# Altium schematic symbol library SR SCH Library V02.SchLib: 689 symbols (part 2 of 3)
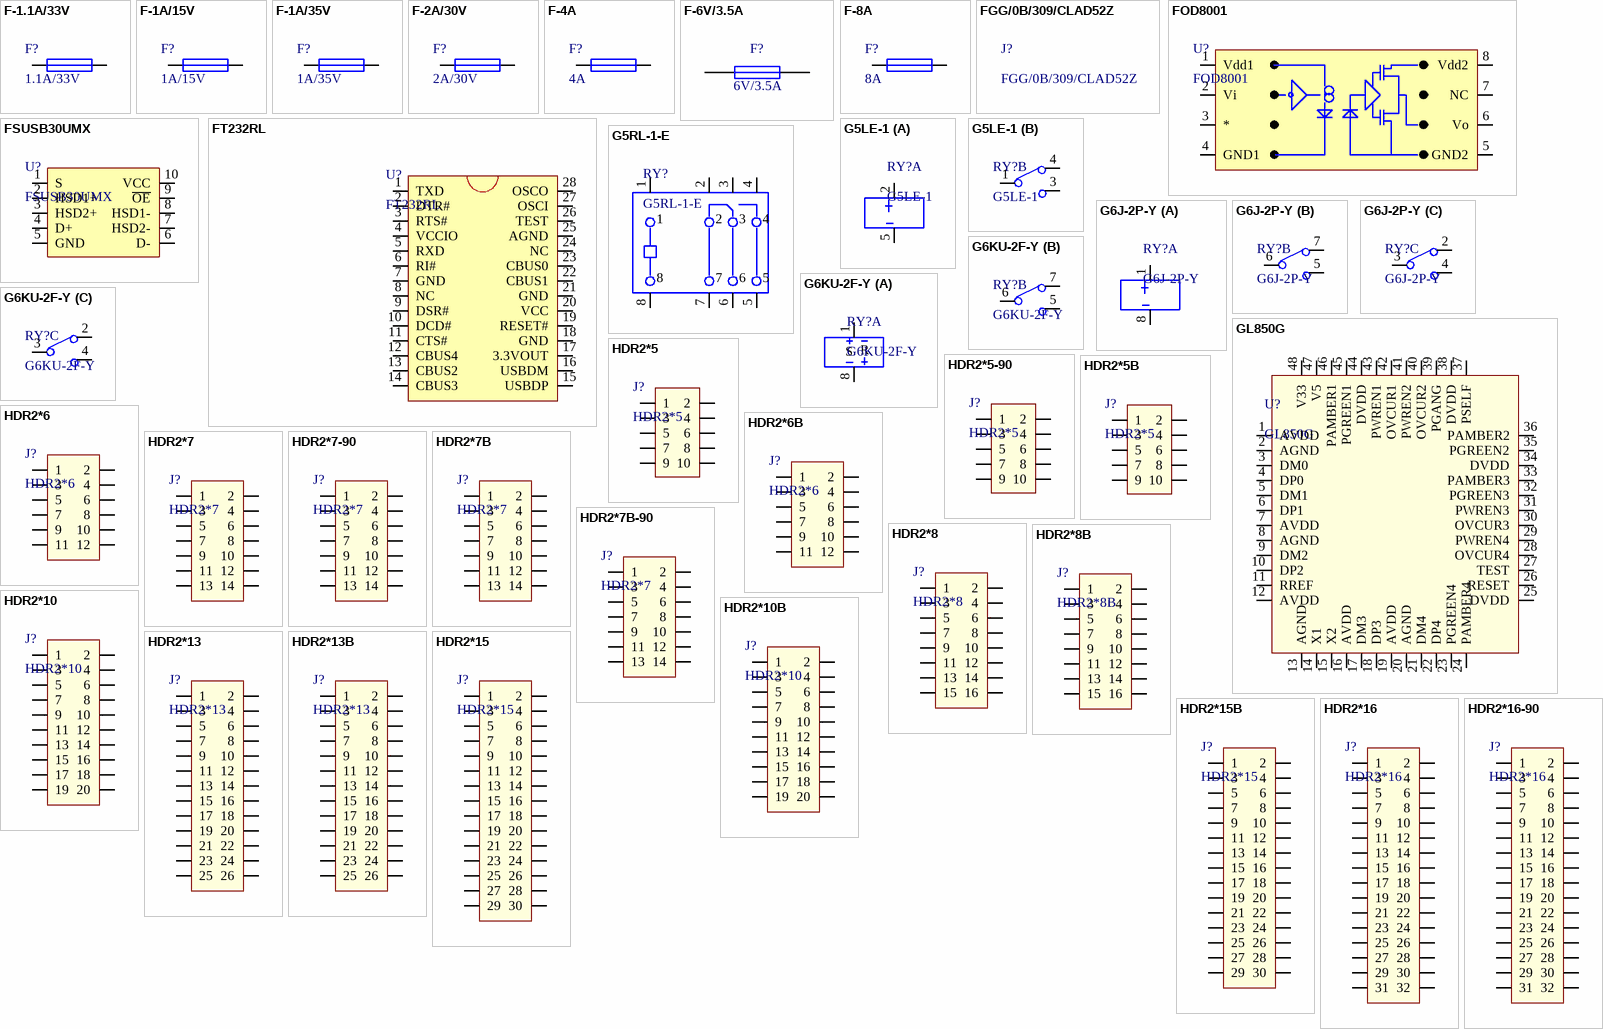
[diagram p19: symbols F-1.1A/33V to HDR2*16-90]

## HDR2*5-90
designator J?, comment HDR2*5
牛角连接器,简牛插座,90度弯角，2*5,2.54mm; 料号: 10704-00038-00; 品名: 牛角连接器
footprint HDR2×5H
pins: 1, 2, 3, 4, 5, 6, 7, 8, 9, 10

## HDR2*5B
designator J?, comment HDR2*5
牛角连接器,牛角插座,2*5,2.54mm; 料号: 10704-00002-00; 品名: 牛角连接器
footprint HDR2×5
pins: 1, 2, 3, 4, 5, 6, 7, 8, 9, 10

## HDR2*6
designator J?
牛角连接器,简牛插座,2*6,2.54mm; 料号: 10704-00004-00; 品名: 牛角连接器
footprint HDR2×6
pins: 1, 2, 3, 4, 5, 6, 7, 8, 9, 10, 11, 12

## HDR2*6B
designator J?, comment HDR2*6
牛角连接器,牛角插座,2*6,2.54mm; 料号: 10704-00005-00; 品名: 牛角连接器
footprint HDR2×6
pins: 1, 2, 3, 4, 5, 6, 7, 8, 9, 10, 11, 12

## HDR2*7
designator J?
牛角连接器,简牛插座,2*7,2.54mm; 料号: 10704-00007-00; 品名: 牛角连接器
footprint HDR2×7
pins: 1, 2, 3, 4, 5, 6, 7, 8, 9, 10, 11, 12, 13, 14

## HDR2*7-90
designator J?, comment HDR2*7
牛角连接器,简牛插座,90度弯角，2*7,2.54mm; 料号: 10704-00039-00; 品名: 牛角连接器
footprint HDR2×7H
pins: 1, 2, 3, 4, 5, 6, 7, 8, 9, 10, 11, 12, 13, 14

## HDR2*7B
designator J?, comment HDR2*7
牛角连接器,牛角插座,2*7,2.54mm; 料号: 10704-00008-00; 品名: 牛角连接器
footprint HDR2×7
pins: 1, 2, 3, 4, 5, 6, 7, 8, 9, 10, 11, 12, 13, 14

## HDR2*7B-90
designator J?, comment HDR2*7
牛角连接器,牛角插座,90度弯脚，2*7,2.54mm; 料号: 10704-00041-00; 品名: 牛角连接器
footprint HDR2×7H
pins: 1, 2, 3, 4, 5, 6, 7, 8, 9, 10, 11, 12, 13, 14

## HDR2*8
designator J?
牛角连接器,简牛插座,2*8,2.54mm; 料号: 10704-00010-00; 品名: 牛角连接器
footprint HDR2×8
pins: 1, 2, 3, 4, 5, 6, 7, 8, 9, 10, 11, 12, 13, 14, 15, 16

## HDR2*8B
designator J?
牛角连接器,牛角插座,2*8,2.54mm; 料号: 10704-00011-00; 品名: 牛角连接器
footprint HDR2×8
pins: 1, 2, 3, 4, 5, 6, 7, 8, 9, 10, 11, 12, 13, 14, 15, 16

## HDR2*10
designator J?
牛角连接器,简牛插座,2*10,2.54mm; 料号: 10704-00013-00; 品名: 牛角连接器
footprint HDR2×10
pins: 1, 2, 3, 4, 5, 6, 7, 8, 9, 10, 11, 12, 13, 14, 15, 16, 17, 18, 19, 20

## HDR2*10B
designator J?, comment HDR2*10
牛角连接器,牛角插座,2*10,2.54mm; 料号: 10704-00015-00; 品名: 牛角连接器
footprint HDR2×10
pins: 1, 2, 3, 4, 5, 6, 7, 8, 9, 10, 11, 12, 13, 14, 15, 16, 17, 18, 19, 20

## HDR2*13
designator J?
牛角连接器,简牛插座,2*13,2.54mm; 料号: 10704-00017-00; 品名: 牛角连接器
footprint HDR2×13
pins: 1, 2, 3, 4, 5, 6, 7, 8, 9, 10, 11, 12, 13, 14, 15, 16, 17, 18, 19, 20, 21, 22, 23, 24, 25, 26

## HDR2*13B
designator J?, comment HDR2*13
牛角连接器,牛角插座,2*13,2.54mm; 料号: 10704-00018-00; 品名: 牛角连接器
footprint HDR2×13
pins: 1, 2, 3, 4, 5, 6, 7, 8, 9, 10, 11, 12, 13, 14, 15, 16, 17, 18, 19, 20, 21, 22, 23, 24, 25, 26

## HDR2*15
designator J?
牛角连接器,简牛插座,2*15,2.54mm; 料号: 10704-00020-00; 品名: 牛角连接器
footprint HDR2×15
pins: 1, 2, 3, 4, 5, 6, 7, 8, 9, 10, 11, 12, 13, 14, 15, 16, 17, 18, 19, 20, 21, 22, 23, 24, 25, 26, 27, 28, 29, 30

## HDR2*15B
designator J?, comment HDR2*15
牛角连接器,牛角插座,2*15,2.54mm; 料号: 10704-00021-00; 品名: 牛角连接器
footprint HDR2×15
pins: 1, 2, 3, 4, 5, 6, 7, 8, 9, 10, 11, 12, 13, 14, 15, 16, 17, 18, 19, 20, 21, 22, 23, 24, 25, 26, 27, 28, 29, 30

## HDR2*16
designator J?
牛角连接器,简牛插座,2*16,2.54mm; 料号: 10704-00023-00; 品名: 牛角连接器
footprint HDR2×16
pins: 1, 2, 3, 4, 5, 6, 7, 8, 9, 10, 11, 12, 13, 14, 15, 16, 17, 18, 19, 20, 21, 22, 23, 24, 25, 26, 27, 28, 29, 30, 31, 32

## HDR2*16-90
designator J?, comment HDR2*16
牛角连接器,简牛插座,90度弯角，2*16,2.54mm; 料号: 10704-00040-00; 品名: 牛角连接器
footprint HDR2×16H
pins: 1, 2, 3, 4, 5, 6, 7, 8, 9, 10, 11, 12, 13, 14, 15, 16, 17, 18, 19, 20, 21, 22, 23, 24, 25, 26, 27, 28, 29, 30, 31, 32

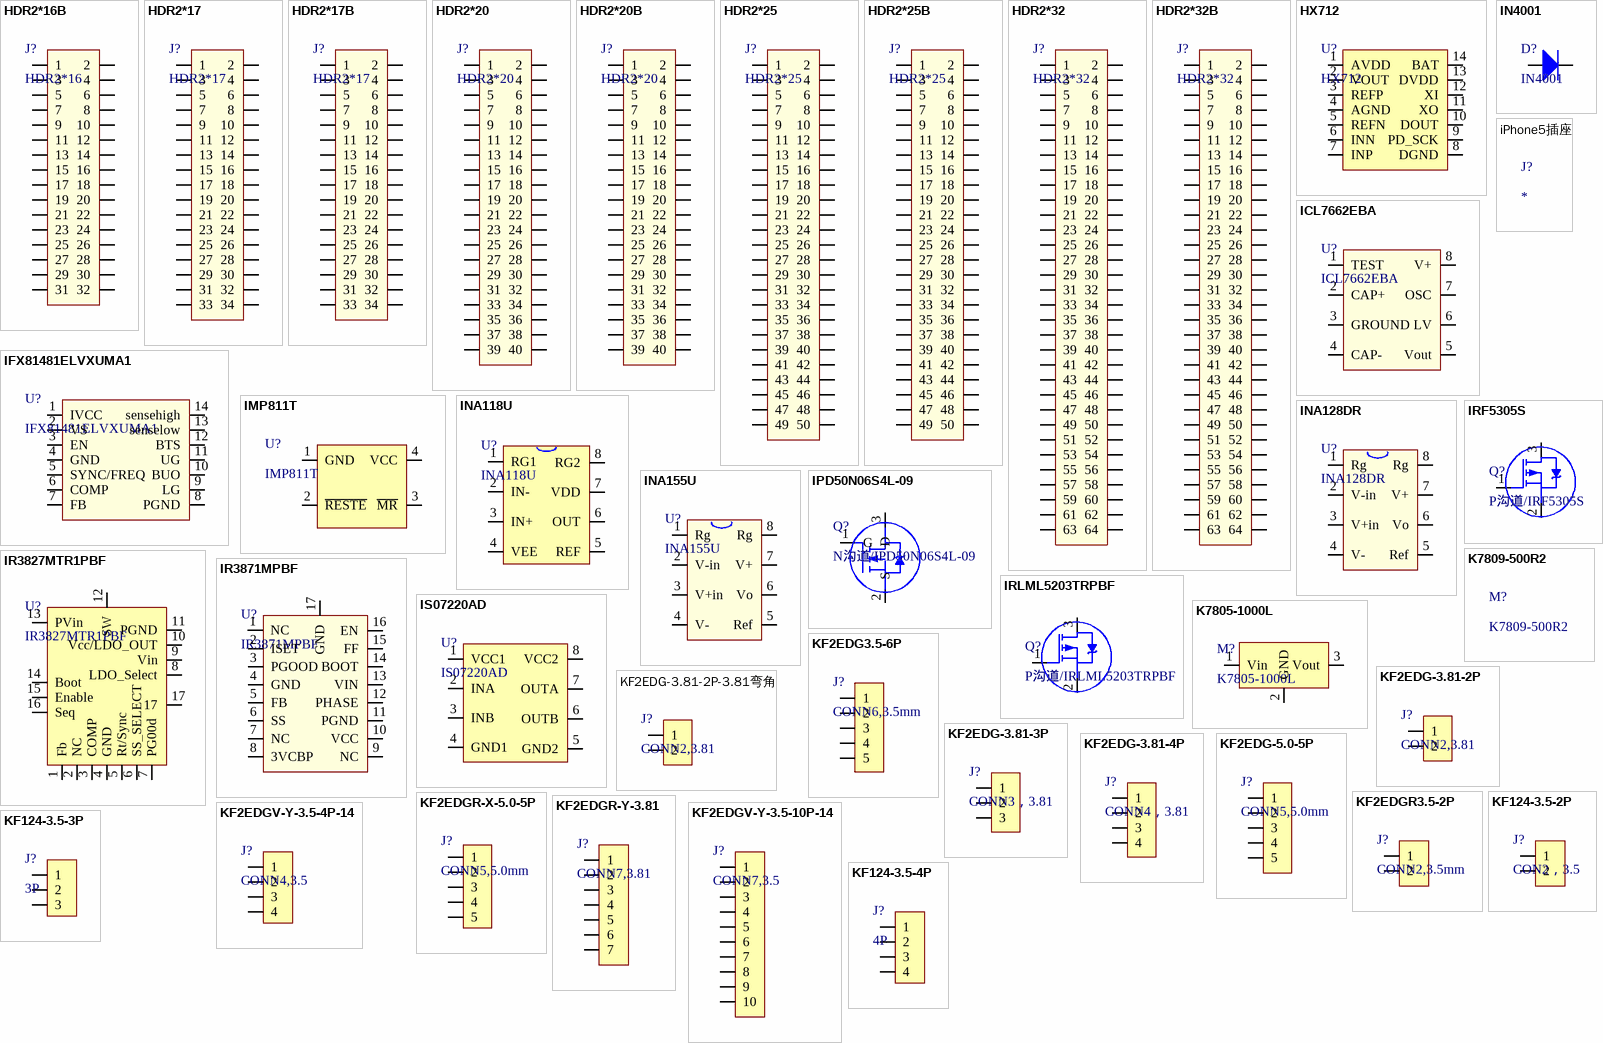
[diagram p8: symbols HDR2*16B to KF124-3.5-4P]

## HDR2*16B
designator J?, comment HDR2*16
牛角连接器,牛角插座,2*16,2.54mm; 料号: 10704-00024-00; 品名: 牛角连接器
footprint HDR2×16
pins: 1, 2, 3, 4, 5, 6, 7, 8, 9, 10, 11, 12, 13, 14, 15, 16, 17, 18, 19, 20, 21, 22, 23, 24, 25, 26, 27, 28, 29, 30, 31, 32

## HDR2*17
designator J?
牛角连接器,简牛插座,2*17,2.54mm; 料号: 10704-00026-00; 品名: 牛角连接器
footprint HDR2×17
pins: 1, 2, 3, 4, 5, 6, 7, 8, 9, 10, 11, 12, 13, 14, 15, 16, 17, 18, 19, 20, 21, 22, 23, 24, 25, 26, 27, 28, 29, 30, 31, 32, 33, 34

## HDR2*17B
designator J?, comment HDR2*17
牛角连接器,牛角插座,2*17,2.54mm; 料号: 10704-00027-00; 品名: 牛角连接器
footprint HDR2×17
pins: 1, 2, 3, 4, 5, 6, 7, 8, 9, 10, 11, 12, 13, 14, 15, 16, 17, 18, 19, 20, 21, 22, 23, 24, 25, 26, 27, 28, 29, 30, 31, 32, 33, 34

## HDR2*20
designator J?
牛角连接器,简牛插座,2*20,2.54mm; 料号: 10704-00029-00; 品名: 牛角连接器
footprint HDR2×20
pins: 1, 2, 3, 4, 5, 6, 7, 8, 9, 10, 11, 12, 13, 14, 15, 16, 17, 18, 19, 20, 21, 22, 23, 24, 25, 26, 27, 28, 29, 30, 31, 32, 33, 34, 35, 36, 37, 38, 39, 40

## HDR2*20B
designator J?, comment HDR2*20
牛角连接器,牛角插座,2*20,2.54mm; 料号: 10704-00030-00; 品名: 牛角连接器
footprint HDR2×20
pins: 1, 2, 3, 4, 5, 6, 7, 8, 9, 10, 11, 12, 13, 14, 15, 16, 17, 18, 19, 20, 21, 22, 23, 24, 25, 26, 27, 28, 29, 30, 31, 32, 33, 34, 35, 36, 37, 38, 39, 40

## HDR2*25
designator J?
牛角连接器,简牛插座,2*25,2.54mm; 料号: 10704-00032-00; 品名: 牛角连接器
footprint HDR2×25
pins: 1, 2, 3, 4, 5, 6, 7, 8, 9, 10, 11, 12, 13, 14, 15, 16, 17, 18, 19, 20, 21, 22, 23, 24, 25, 26, 27, 28, 29, 30, 31, 32, 33, 34, 35, 36, 37, 38, 39, 40, 41, 42, 43, 44, 45, 46, 47, 48, 49, 50

## HDR2*25B
designator J?, comment HDR2*25
牛角连接器,牛角插座,2*25,2.54mm; 料号: 10704-00033-00; 品名: 牛角连接器
footprint HDR2×25
pins: 1, 2, 3, 4, 5, 6, 7, 8, 9, 10, 11, 12, 13, 14, 15, 16, 17, 18, 19, 20, 21, 22, 23, 24, 25, 26, 27, 28, 29, 30, 31, 32, 33, 34, 35, 36, 37, 38, 39, 40, 41, 42, 43, 44, 45, 46, 47, 48, 49, 50

## HDR2*32
designator J?
牛角连接器,简牛插座,2*32,2.54mm; 料号: 10704-00035-00; 品名: 牛角连接器
footprint HDR2×32
pins: 1, 2, 3, 4, 5, 6, 7, 8, 9, 10, 11, 12, 13, 14, 15, 16, 17, 18, 19, 20, 21, 22, 23, 24, 25, 26, 27, 28, 29, 30, 31, 32, 33, 34, 35, 36, 37, 38, 39, 40, 41, 42, 43, 44, 45, 46, 47, 48, 49, 50, 51, 52, 53, 54, 55, 56, 57, 58, 59, 60, 61, 62, 63, 64

## HDR2*32B
designator J?, comment HDR2*32
牛角连接器,牛角插座,2*32,2.54mm; 料号: 10704-00036-00; 品名: 牛角连接器
footprint HDR2×32
pins: 1, 2, 3, 4, 5, 6, 7, 8, 9, 10, 11, 12, 13, 14, 15, 16, 17, 18, 19, 20, 21, 22, 23, 24, 25, 26, 27, 28, 29, 30, 31, 32, 33, 34, 35, 36, 37, 38, 39, 40, 41, 42, 43, 44, 45, 46, 47, 48, 49, 50, 51, 52, 53, 54, 55, 56, 57, 58, 59, 60, 61, 62, 63, 64

## HX712
designator U?
IC，HX712,16PIN模块，SOP14; 料号: 10602-00013-6H; 品名: 放大器
footprint SOP14
pins: 1 AVDD, 2 VOUT, 3 REFP, 4 AGND, 5 REFN, 6 INN, 7 INP, 8 DGND, 9 PD_SCK, 10 DOUT, 11 XO, 12 XI, 13 DVDD, 14 BAT

## ICL7662EBA
designator U?
IC，ICL7662EBA，SOP8; 料号: 10604-00029-4H; 品名: 电源芯片
footprint SOP8 (body:6mm)
pins: 1 TEST, 2 CAP+, 3 GROUND, 4 CAP-, 5 Vout, 6 LV, 7 OSC, 8 V+

## IFX81481ELVXUMA1
designator U?
IFX81481ELVXUMA1,SSOP14; 料号: 10604-00041-00; 品名: 电源芯片
footprint SSOP14
pins: 1 IVCC, 2 VS, 3 EN, 4 GND, 5 SYNC/FREQ, 6 COMP, 7 FB, 8 PGND, 9 LG, 10 BUO, 11 UG, 12 BTS, 13 senselow, 14 sensehigh

## IMP811T
designator U?
IC，IMP811T,SOT143; 料号: 10611-00012-00; 品名: ASIC
footprint SOT-143
pins: 1 GND, 2 ~{R}~{E}~{S}~{T}~{E}, 3 ~{M}~{R}, 4 VCC

## IN4001
designator D?
整流二极管，1N4001，DO-214AC; 料号: 10401-00001-4K; 品名: 整流二极管
footprint DO-214AC(SMA) (SMA)
pins: A, K

## INA118U
designator U?
IC,INA118U,SOP8; 料号: 10602-00014-00; 品名: 放大器
footprint SOP8 (body:6mm)
pins: 1 RG1, 2 IN-, 3 IN+, 4 VEE, 5 REF, 6 OUT, 7 VDD, 8 RG2

## INA128DR
designator U?
IC，INA128DR，SOP8; 料号: 10602-00003-9G; 品名: 放大器
footprint SOP8 (body:6mm)
pins: 1 Rg, 2 V-in, 3 V+in, 4 V-, 5 Ref, 6 Vo, 7 V+, 8 Rg

## INA155U
designator U?
IC，INA155U，SOP8; 料号: 10602-00008-9G; 品名: 放大器
footprint SOP8 (body:6mm)
pins: 1 Rg, 2 V-in, 3 V+in, 4 V-, 5 Ref, 6 Vo, 7 V+, 8 Rg

## IPD50N06S4L-09
designator Q?, comment N沟道/IPD50N06S4L-09
N沟道场效应管，IPD50N06S4L-09，TO-252; 料号: 10503-00005-00; 品名: N沟道场效应管
footprint TO-252 DPAK
pins: 1 G, 2 S, 3 D

## iPhone5插座
designator J?
iPhone5插座，母头，10*0.6mm; 料号: 10705-00017-00; 品名: 数据接口连接器

## IR3827MTR1PBF
designator U?
IC，IR3827MTR1PBF，QFN17（4*5）; 料号: 10604-00022-7G; 品名: 电源芯片
footprint QFN17
pins: 1 Fb, 2 NC, 3 COMP, 4 GND, 5 Rt/Sync, 6 SS_SELECT, 7 PG00d, 8 LDO_Select, 9 Vin, 10 Vcc/LDO_OUT, 11 PGND, 12 SW, 13 PVin, 14 Boot, 15 Enable, 16 Seq, 17

## IR3871MPBF
designator U?
IR3871MPBF，IR3871; 料号: 10604-00038-00; 品名: 电源芯片
pins: 1 NC, 2 ISET, 3 PGOOD, 4 GND, 5 FB, 6 SS, 7 NC, 8 3VCBP, 9 NC, 10 VCC, 11 PGND, 12 PHASE, 13 VIN, 14 BOOT, 15 FF, 16 EN, 17 GND

## IRF5305S
designator Q?, comment P沟道/IRF5305S
P沟道场效应管，IRF5305S，TO-263-3; 料号: 10504-00001-7G; 品名: P沟道场效应管
footprint TO-263-3
pins: 1 G, 2 S, 3 D

## IRLML5203TRPBF
designator Q?, comment P沟道/IRLML5203TRPBF
P沟道场效应管，IRLML5203TRPBF，SOT-23; 料号: 10504-00003-7G; 品名: P沟道场效应管
footprint SOT-23
pins: 1 G, 2 S, 3 D

## IS07220AD
designator U?
光耦，IS07220AD，SOP8; 料号: 10609-00008-9G; 品名: 光耦
footprint SOP8 (body:6mm)
pins: 1 VCC1, 2 INA, 3 INB, 4 GND1, 5 GND2, 6 OUTB, 7 OUTA, 8 VCC2

## K7805-1000L
designator M?
DC-DC模块，MORNSUN K7805-1000L，  IN:6.5-32VDC,OUT:5VDC/1000MA; 料号: 11101-00002-2L; 品名: DC-DC模块
footprint K7805-1000L (电源模块)
pins: 1 Vin, 2 GND, 3 Vout

## K7809-500R2
designator M?
DC-DC模块,MORNSUN,K7809-500R2，IN:11-32VDC,OUT:9VDC/500MA; 料号: 11101-00008-2L; 品名: DC-DC模块

## KF2EDG3.5-6P
designator J?, comment CONN6,3.5mm
KF2EDG3.5-6P，插座; 料号: 10701-00093-00; 品名: 线对板连接器
footprint KF2EDGR-Y-6P (3.5mm插拨式接线端子，配合KF2EDG-Y使用)
pins: 1, 2, 3, 4, 5

## KF2EDG-3.81-2P
designator J?, comment CONN2,3.81
KF2EDG-3.81-2P,3.81mm; 料号: 10701-00099-00; 品名: 线对板连接器
pins: 1, 2

## KF2EDG-3.81-2P-3.81弯角
designator J?, comment CONN2,3.81
KF2EDG-3.81-2P,3.81mm 弯角; 料号: 10701-00097-00; 品名: 线对板连接器
pins: 1, 2

## KF2EDG-3.81-3P
designator J?, comment CONN3，3.81
KF2EDG-3.81-3P,3.81mm; 料号: 10701-00100-00; 品名: 线对板连接器
pins: 1, 2, 3

## KF2EDG-3.81-4P
designator J?, comment CONN4，3.81
KF2EDG-3.81-4P,3.81mm; 料号: 10701-00101-00; 品名: 线对板连接器
pins: 1, 2, 3, 4

## KF2EDG-5.0-5P
designator J?, comment CONN5,5.0mm
母头，KF2EDG-5.0-5P，5.0mm; 料号: 10701-00080-00; 品名: 线对板连接器
footprint KF2EDGR-5.0-5P (Footprint not found)
footprint KF2EDGR-Y-5P-5.0 (3.5mm插拨式接线端子，配合KF2EDG-Y使用)
pins: 1, 2, 3, 4, 5

## KF2EDGR3.5-2P
designator J?, comment CONN2,3.5mm
KF2EDGR3.5-2P，插座; 料号: 10701-00091-00; 品名: 线对板连接器
footprint KF2EDGR-Y-2P (3.5mm插拨式接线端子，配合KF2EDG-Y使用)
pins: 1, 2

## KF2EDGR-X-5.0-5P
designator J?, comment CONN5,5.0mm
公头，KF2EDGR-X-5.0-5P，5.0mm; 料号: 10701-00079-00; 品名: 线对板连接器
footprint KF2EDGR-X-5.0-5P (母座：KF2EDGR-X-5.0-5P 公头：KF-2EDG-5.0-5P)
pins: 1, 2, 3, 4, 5

## KF2EDGR-Y-3.81
designator J?, comment CONN7,3.81
KF2EDGR-Y-3.81,7PIN,3.81mm; 料号: 10701-00074-00; 品名: 线对板连接器
footprint KF2EDGR-Y-7P-3.81
pins: 1, 2, 3, 4, 5, 6, 7

## KF2EDGV-Y-3.5-4P-14
designator J?, comment CONN4,3.5
凤凰端子，KF2EDGV-Y-3.5-4P-14，4PIN，3.5mm，公母头套装; 料号: 10701-00104-00; 品名: 线对板连接器
footprint CN4-3.5 (欧式接线端子，KF2EDGV-Y-3.5-4P-14，4PIN，3.5mm，公母头套装)
pins: 1, 2, 3, 4

## KF2EDGV-Y-3.5-10P-14
designator J?, comment CONN7,3.5
凤凰端子，KF2EDGV-Y-3.5-10P-14，7PIN，3.5mm，公母头套装; 料号: 10701-00103-00; 品名: 线对板连接器
footprint CN10-3.5 (欧式接线端子，KF2EDGV-Y-3.5-10P-14，4PIN，3.5mm，公母头套装)
pins: 1, 2, 3, 4, 5, 6, 7, 8, 9, 10

## KF124-3.5-2P
designator J?, comment CON2，3.5
欧式接线端子，KF124-3.5-2P,2PIN，3.50mm; 料号: 10701-00034-00; 品名: 线对板连接器
footprint KF124-2P-3.5
pins: 1, 2

## KF124-3.5-3P
designator J?, comment 3P
欧式接线端子，KF124-3.5-3P,3PIN,3.50mm; 料号: 10701-00069-00; 品名: 线对板连接器
footprint KF124-3P-3.5
pins: 1, 2, 3

## KF124-3.5-4P
designator J?, comment 4P
欧式接线端子，KF124-3.5-4P,4PIN,3.50mm; 料号: 10701-00068-00; 品名: 线对板连接器
footprint KF124-4P-3.5
pins: 1, 2, 3, 4

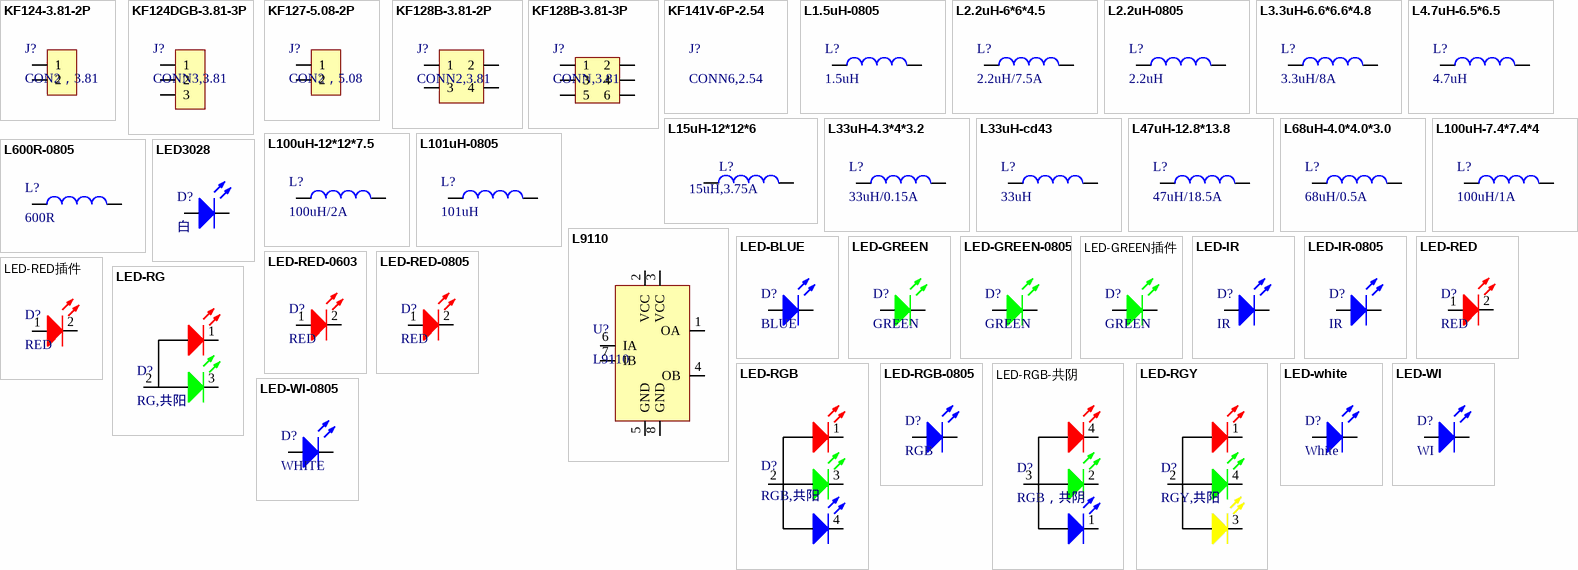
[diagram p9: symbols KF124-3.81-2P to LED-WI-0805]

## KF124-3.81-2P
designator J?, comment CON2，3.81
欧式接线端子，KF124-3.81-2P,2PIN，3.81mm; 料号: 10701-00035-00; 品名: 线对板连接器
footprint KF124-2P-3.81
pins: 1, 2

## KF124DGB-3.81-3P
designator J?, comment CONN3,3.81
KF124DGB-3.81-3P,3.81mm; 料号: 10701-00073-00; 品名: 线对板连接器
footprint KF124-3P-3.81
pins: 1, 2, 3

## KF127-5.08-2P
designator J?, comment CON2，5.08
欧式接线端子，KF127-5.08-2P,2PIN，5.08mm; 料号: 10701-00036-00; 品名: 线对板连接器
footprint KF124-2P-5.08
pins: 1, 2

## KF128B-3.81-2P
designator J?, comment CONN2,3.81
KF128B-3.81-2P,3.81mm; 料号: 10701-00064-00; 品名: 线对板连接器
footprint KF128B2P-3.81
pins: 1, 2, 3, 4

## KF128B-3.81-3P
designator J?, comment CONN,3.81
KF128B-3.81-3P,3.81mm; 料号: 10701-00065-00; 品名: 线对板连接器
footprint KF128B3P-3.81
pins: 1, 2, 3, 4, 5, 6

## KF141V-6P-2.54
designator J?, comment CONN6,2.54
KF141V-6P-2.54MM; 料号: 10701-00109-00; 品名: 线对板连接器

## L1.5uH-0805
designator L?, comment 1.5uH
磁珠，1.5uH，0805; 料号: 10302-1U503-00; 品名: 磁珠
footprint 0805L
pins: 1, 2

## L2.2uH-6*6*4.5
designator L?, comment 2.2uH/7.5A
功率电感,2.2uH@100KHZ,30%,7.5A,0.02R,6*6*4.5mm; 料号: 10301-2U204-00; 品名: 功率电感
footprint L-SMD6*6
pins: 1, 2

## L2.2uH-0805
designator L?, comment 2.2uH
磁珠,2.2uH,0805; 料号: 10302-2U203-00; 品名: 磁珠
footprint 0805L
pins: 1, 2

## L3.3uH-6.6*6.6*4.8
designator L?, comment 3.3uH/8A
功率电感，3.3uH@200KHz，20%，8A，6.6*6.6*4.8; 料号: 10301-33048-00; 品名: 功率电感
footprint L-6.6*6.6*4.8
pins: 1, 2

## L4.7uH-6.5*6.5
designator L?, comment 4.7uH
绕线电感，4.7uH,L6.5*6.5; 料号: 10301-4U706-00; 品名: 功率电感
footprint L-6.5*6.5
pins: 1, 2

## L15uH-12*12*6
designator L?, comment 15uH,3.75A
744771115，15uH，±20%，3.75A，外形尺寸：12x12x6mm; 料号: 10301-01014-00; 品名: 功率电感
footprint L12*12*6
pins: 1, 2

## L33uH-4.3*4*3.2
designator L?, comment 33uH/0.15A
功率电感，33uH@100KHz，20%，0.15A，4.3*4*3.2; 料号: 10301-33059-00; 品名: 功率电感
footprint L-4.3*4*3.2
pins: 1, 2

## L33uH-cd43
designator L?, comment 33uH
绕线电感，33uH,cd43; 料号: 10301-03307-00; 品名: 功率电感
footprint cd43
pins: 1, 2

## L47uH-12.8*13.8
designator L?, comment 47uH/18.5A
一体功率电感，47uH,18.5A,12.8*13.8; 料号: 10301-0470B-00; 品名: 功率电感
footprint L-12.8*13.8*5
pins: 1, 2

## L68uH-4.0*4.0*3.0
designator L?, comment 68uH/0.5A
功率电感,68uH@100KHZ，20%，0.5A，4.0*4.0*3.0mm; 料号: 10301-06803-00; 品名: 功率电感
footprint L-SMD4*4
pins: 1, 2

## L100uH-7.4*7.4*4
designator L?, comment 100uH/1A
功率电感,100uH@100KHZ,20%,1A,0.3R,7.4*7.4*4mm; 料号: 10301-10002-00; 品名: 功率电感
footprint L-SMD7.4*7.4
pins: 1, 2

## L100uH-12*12*7.5
designator L?, comment 100uH/2A
功率电感,100uH@100KHZ,20%,2A,0.2R,12*12*7.5mm; 料号: 10301-10001-00; 品名: 功率电感
footprint L-SMD12*13
pins: 1, 2

## L101uH-0805
designator L?, comment 101uH
磁珠，101uH,0805; 料号: 10302-10103-00; 品名: 磁珠
footprint 0805L
pins: 1, 2

## L600R-0805
designator L?, comment 600R
磁珠，100MHz,600R，0805; 料号: 10302-60003-00; 品名: 磁珠
footprint 0805L
pins: 1, 2

## L9110
designator U?
IC，L9110,SOP8; 料号: 10611-00011-00; 品名: ASIC
footprint SOP8 (body:6mm)
pins: 1 OA, 2 VCC, 3 VCC, 4 OB, 5 GND, 6 IA, 7 IB, 8 GND

## LED3028
designator D?, comment 白
LED3028，直径3，白色LED发光二极管; 料号: 10406-00022-00; 品名: 发光二极管
pins: 1 A, 2 K

## LED-BLUE
designator D?, comment BLUE
LED，蓝光，Ф5; 料号: 10406-00003-00; 品名: 发光二极管
footprint LED-5-2P
pins: 1 A, 2 K

## LED-GREEN
designator D?, comment GREEN
LED，绿光，Ф5; 料号: 10406-00002-00; 品名: 发光二极管
footprint LED-5-2P
pins: 1 A, 2 K

## LED-GREEN-0805
designator D?, comment GREEN
贴片LED，绿光，0805; 料号: 10406-00014-00; 品名: 发光二极管
footprint 0805D
pins: 1, 2

## LED-GREEN插件
designator D?, comment GREEN
LED,绿色,单孔灯座无边底座，直径3mm，插件; 料号: 10406-00017-00; 品名: 发光二级管
pins: 1 A, 2 K

## LED-IR
designator D?, comment IR
红外发射，波长940nm，直径3mm，插件; 料号: 10406-00015-00; 品名: 发光二极管
pins: 1 A, 2 K

## LED-IR-0805
designator D?, comment IR
发光二极管，红外发射，IR17-21C，0805; 料号: 10406-00010-00; 品名: 发光二极管
footprint 0805D
pins: 1 A, 2 K

## LED-RED
designator D?, comment RED
LED，红光，Ф5; 料号: 10406-00001-00; 品名: 发光二极管
footprint LED-5-2P
pins: 1, 2

## LED-RED-0603
designator D?, comment RED
LED，红光，0603; 料号: 10406-00008-00; 品名: 发光二极管
footprint 0603D
pins: 1, 2

## LED-RED-0805
designator D?, comment RED
贴片LED，红光，0805; 料号: 10406-00013-00; 品名: 发光二极管
footprint 0805D
pins: 1, 2

## LED-RED插件
designator D?, comment RED
LED,红色, 单孔灯座无边底座，直径3mm，插件; 料号: 10406-00018-00; 品名: 发光二极管
pins: 1, 2

## LED-RG
designator D?, comment RG,共阳
LED，红绿，共阳，Ф5; 料号: 10406-00005-00; 品名: 发光二极管
footprint LED-5-3P
pins: 1, 2, 3

## LED-RGB
designator D?, comment RGB,共阳
LED，红绿蓝，共阳，Ф5; 料号: 10406-00006-00; 品名: 发光二极管
footprint LED-5-4P
pins: 1, 2, 3, 4

## LED-RGB-0805
designator D?, comment RGB
LED，贴片三色灯，红绿蓝，0805; 料号: 10406-00011-00; 品名: 发光二极管
footprint 0805D
pins: 1 A, 2 K

## LED-RGB-共阴
designator D?, comment RGB，共阴
LED，红绿蓝，共阴，Ф5; 料号: 10406-00019-00; 品名: 发光二极管
footprint LED-5-4P
pins: 1 B, 2 G, 3 GND, 4 R

## LED-RGY
designator D?, comment RGY,共阳
LED，红绿黄，共阳，Ф5; 料号: 10406-00007-00; 品名: 发光二极管
footprint LED-5-4P
pins: 1, 2, 3, 4

## LED-white
designator D?, comment White
发光二极管，正白色：5000~6000K,3528; 料号: 10406-00021-00; 品名: 发光二极管
pins: 1 A, 2 K

## LED-WI
designator D?, comment WI
白发白，草帽型超亮LED灯，色温6000-6500K，亮度3200-3400mcd，直径5mm; 料号: 10406-00016-00; 品名: 发光二极管
pins: 1 A, 2 K

## LED-WI-0805
designator D?, comment WHITE
发光二极管，冷白：8000K~10000K，高亮：600~700MCD，0805; 料号: 10406-00009-00; 品名: 发光二极管
footprint 0805D
pins: 1 A, 2 K

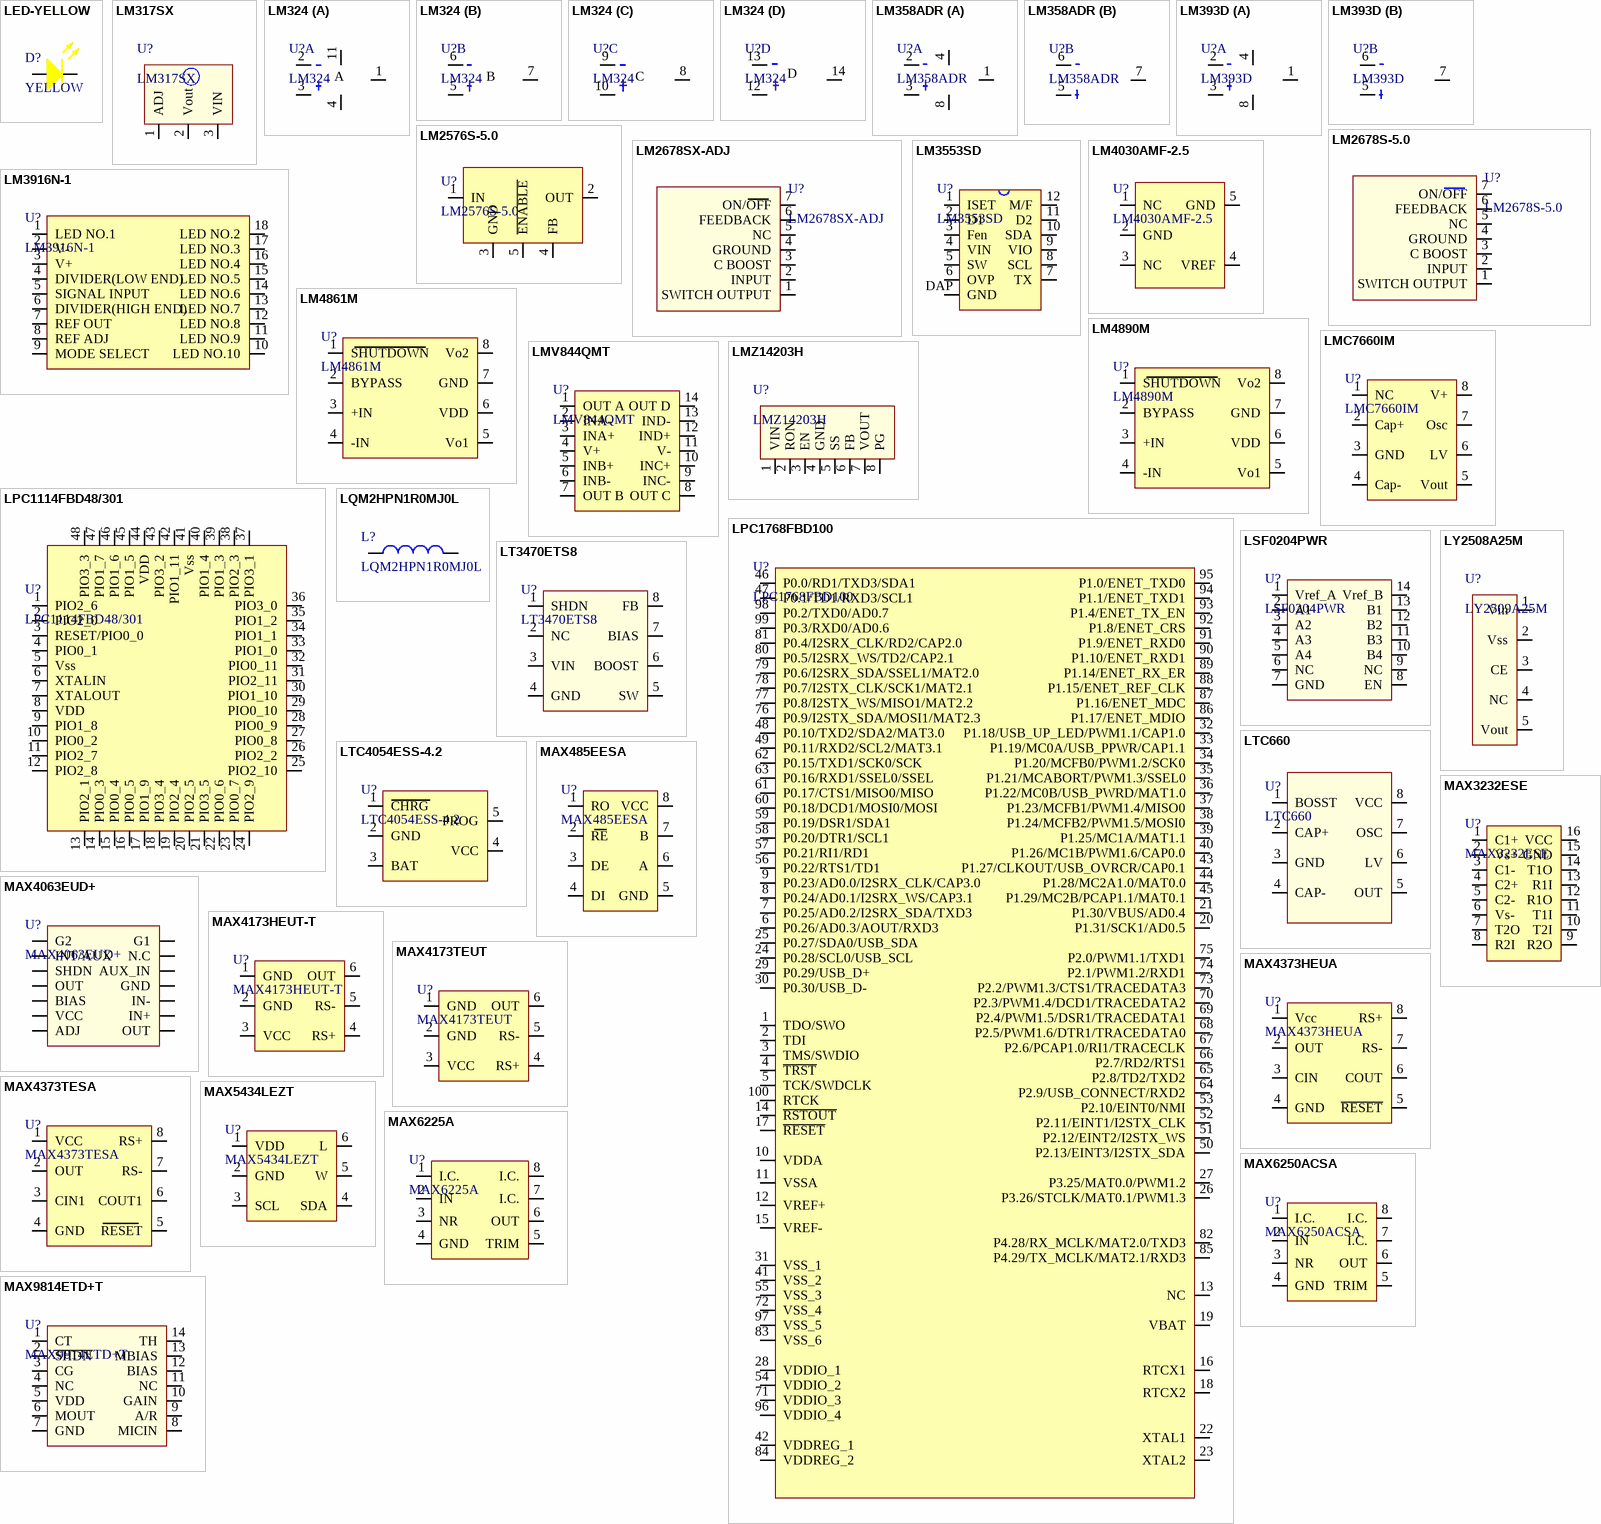
[diagram p10: symbols LED-YELLOW to MAX9814ETD+T]

## LED-YELLOW
designator D?, comment YELLOW
LED，黄光，Ф5; 料号: 10406-00004-00; 品名: 发光二极管
footprint LED-5-2P
pins: 1 A, 2 K

## LM317SX
designator U?
IC，LM317SX，TO220AB; 料号: 10604-00005-1K; 品名: 电源芯片
footprint TO220AB
pins: 1 ADJ, 2 Vout, 3 VIN

## LM324
designator U?
IC，LM324,SOP-14; 料号: 10602-00020-00; 品名: 放大器
footprint SOP14
part A pins: 1 Output1, 2 Input1-, 3 Input1+, 4 VCC, 11 GND
part B pins: 5 Input2+, 6 Input2-, 7 Output2
part C pins: 8 Output3, 9 Input3-, 10 Input3+
part D pins: 12 Input4+, 13 Input4-, 14 Output4
part A text: A
part B text: B
part C text: C
part D text: D

## LM358ADR
designator U?
IC，LM358ADR,SOP8; 料号: 10602-00002-9G; 品名: 放大器
footprint SOP8 (body:6mm)
part A pins: 1 Output1, 2 Input1-, 3 Input1+, 4 GND, 8 VCC
part B pins: 5 Input2+, 6 Input2-, 7 Output2

## LM393D
designator U?
IC，LM393D，SOP8; 料号: 10607-00001-9G; 品名: 逻辑芯片
footprint SOP8 (body:6mm)
part A pins: 1 Output1, 2 Input1-, 3 Input1+, 4 GND, 8 VCC
part B pins: 5 Input2+, 6 Input2-, 7 Output2

## LM2576S-5.0
designator U?
IC，LM2576S-5.0，TO-263-5; 料号: 10604-00002-1K; 品名: 电源芯片
footprint TO-263-5
pins: 1 IN, 2 OUT, 3 GND, 4 FB, 5 ~{ENABLE}

## LM2678S-5.0
designator U?
IC，LM2678S-5.0，TO-263-7; 料号: 10604-00003-1K; 品名: 电源芯片
footprint TO-263-7
pins: 1 SWITCH OUTPUT, 2 INPUT, 3 C BOOST, 4 GROUND, 5 NC, 6 FEEDBACK, 7 ON/OFF

## LM2678SX-ADJ
designator U?
IC，LM2678S-ADJ，TO-263-7; 料号: 10604-00004-1K; 品名: 电源芯片
footprint TO-263-7
pins: 1 SWITCH OUTPUT, 2 INPUT, 3 C BOOST, 4 GROUND, 5 NC, 6 FEEDBACK, 7 ON/OFF

## LM3553SD
designator U?
IC，LM3553SD，SDF12A; 料号: 10611-00004-1K; 品名: ASIC
footprint SDF12A
pins: 1 ISET, 2 D1, 3 Fen, 4 VIN, 5 SW, 6 OVP, 7 TX, 8 SCL, 9 VIO, 10 SDA, 11 D2, 12 M/F, DAP GND

## LM3916N-1
designator U?
IC，LM3916N-1，DIP18; 料号: 10607-00002-9G; 品名: 逻辑芯片
footprint DIP18
pins: 1 LED NO.1, 2 V-, 3 V+, 4 DIVIDER(LOW END), 5 SIGNAL INPUT, 6 DIVIDER(HIGH END), 7 REF OUT, 8 REF ADJ, 9 MODE SELECT, 10 LED NO.10, 11 LED NO.9, 12 LED NO.8, 13 LED NO.7, 14 LED NO.6, 15 LED NO.5, 16 LED NO.4, 17 LED NO.3, 18 LED NO.2

## LM4030AMF-2.5
designator U?
IC，LM4030AMF-2.5，SOT23-5; 料号: 10604-00017-1K; 品名: 电源芯片
footprint SOT23-5
pins: 1 NC, 2 GND, 3 NC, 4 VREF, 5 GND

## LM4861M
designator U?
IC，LM4861M，SOP8; 料号: 10602-00006-1K; 品名: 放大器
footprint SOP8 (body:6mm)
pins: 1 SHUTDOWN, 2 BYPASS, 3 +IN, 4 -IN, 5 Vo1, 6 VDD, 7 GND, 8 Vo2

## LM4890M
designator U?
IC，LM4890M，SOP8; 料号: 10602-00001-9G; 品名: 放大器
footprint SOP8 (body:6mm)
pins: 1 SHUTDOWN, 2 BYPASS, 3 +IN, 4 -IN, 5 Vo1, 6 VDD, 7 GND, 8 Vo2

## LMC7660IM
designator U?
IC，LMC7660IM，SOP8; 料号: 10604-00023-1K; 品名: 电源芯片
footprint SOP8 (body:6mm)
pins: 1 NC, 2 Cap+, 3 GND, 4 Cap-, 5 Vout, 6 LV, 7 Osc, 8 V+

## LMV844QMT
designator U?
IC，LMV844QMT，TSSOP14; 料号: 10602-00007-1K; 品名: 放大器
footprint TSSOP14
pins: 1 OUT A, 2 INA-, 3 INA+, 4 V+, 5 INB+, 6 INB-, 7 OUT B, 8 OUT C, 9 INC-, 10 INC+, 11 V-, 12 IND+, 13 IND-, 14 OUT D

## LMZ14203H
designator U?
IC,LMZ14203H TO-PMOD; 料号: 10604-00054-00; 品名: 电源芯片
footprint TO-263-7
pins: 1 VIN, 2 RON, 3 EN, 4 GND, 5 SS, 6 FB, 7 VOUT, 8 PG

## LPC1114FBD48/301
designator U?
MCU,LPC1114FBD48/301,LQFP48; 料号: 10601-00009-9H
footprint LQFP48
pins: 1 PIO2_6, 2 PIO2_0, 3 RESET/PIO0_0, 4 PIO0_1, 5 Vss, 6 XTALIN, 7 XTALOUT, 8 VDD, 9 PIO1_8, 10 PIO0_2, 11 PIO2_7, 12 PIO2_8, 13 PIO2_1, 14 PIO0_3, 15 PIO0_4, 16 PIO0_5, 17 PIO1_9, 18 PIO3_4, 19 PIO2_4, 20 PIO2_5, 21 PIO3_5, 22 PIO0_6, 23 PIO0_7, 24 PIO2_9, 25 PIO2_10, 26 PIO2_2, 27 PIO0_8, 28 PIO0_9, 29 PIO0_10, 30 PIO1_10, 31 PIO2_11, 32 PIO0_11, 33 PIO1_0, 34 PIO1_1, 35 PIO1_2, 36 PIO3_0, 37 PIO3_1, 38 PIO2_3, 39 PIO1_3, 40 PIO1_4, 41 Vss, 42 PIO1_11, 43 PIO3_2, 44 VDD, 45 PIO1_5, 46 PIO1_6, 47 PIO1_7, 48 PIO3_3

## LPC1768FBD100
designator U?
MCU,LPC1768FBD100,LQFP100; 料号: 10601-00012-00; 品名: MCU
footprint LQFP100
pins: 1 TDO/SWO, 2 TDI, 3 TMS/SWDIO, 4 ~{TRST}, 5 TCK/SWDCLK, 6 P0.26/AD0.3/AOUT/RXD3, 7 P0.25/AD0.2/I2SRX_SDA/TXD3, 8 P0.24/AD0.1/I2SRX_WS/CAP3.1, 9 P0.23/AD0.0/I2SRX_CLK/CAP3.0, 10 VDDA, 11 VSSA, 12 VREF+, 13 NC, 14 ~{RSTOUT}, 15 VREF-, 16 RTCX1, 17 ~{RESET}, 18 RTCX2, 19 VBAT, 20 P1.31/SCK1/AD0.5, 21 P1.30/VBUS/AD0.4, 22 XTAL1, 23 XTAL2, 24 P0.28/SCL0/USB_SCL, 25 P0.27/SDA0/USB_SDA, 26 P3.26/STCLK/MAT0.1/PWM1.3, 27 P3.25/MAT0.0/PWM1.2, 28 VDDIO_1, 29 P0.29/USB_D+, 30 P0.30/USB_D-, 31 VSS_1, 32 P1.18/USB_UP_LED/PWM1.1/CAP1.0, 33 P1.19/MC0A/USB_PPWR/CAP1.1, 34 P1.20/MCFB0/PWM1.2/SCK0, 35 P1.21/MCABORT/PWM1.3/SSEL0, 36 P1.22/MC0B/USB_PWRD/MAT1.0, 37 P1.23/MCFB1/PWM1.4/MISO0, 38 P1.24/MCFB2/PWM1.5/MOSI0, 39 P1.25/MC1A/MAT1.1, 40 P1.26/MC1B/PWM1.6/CAP0.0, 41 VSS_2, 42 VDDREG_1, 43 P1.27/CLKOUT/USB_OVRCR/CAP0.1, 44 P1.28/MC2A1.0/MAT0.0, 45 P1.29/MC2B/PCAP1.1/MAT0.1, 46 P0.0/RD1/TXD3/SDA1, 47 P0.1/TD1/RXD3/SCL1, 48 P0.10/TXD2/SDA2/MAT3.0, 49 P0.11/RXD2/SCL2/MAT3.1, 50 P2.13/EINT3/I2STX_SDA, 51 P2.12/EINT2/I2STX_WS, 52 P2.11/EINT1/I2STX_CLK, 53 P2.10/EINT0/NMI, 54 VDDIO_2, 55 VSS_3, 56 P0.22/RTS1/TD1, 57 P0.21/RI1/RD1, 58 P0.20/DTR1/SCL1, 59 P0.19/DSR1/SDA1, 60 P0.18/DCD1/MOSI0/MOSI, 61 P0.17/CTS1/MISO0/MISO, 62 P0.15/TXD1/SCK0/SCK, 63 P0.16/RXD1/SSEL0/SSEL, 64 P2.9/USB_CONNECT/RXD2, 65 P2.8/TD2/TXD2, 66 P2.7/RD2/RTS1, 67 P2.6/PCAP1.0/RI1/TRACECLK, 68 P2.5/PWM1.6/DTR1/TRACEDATA0, 69 P2.4/PWM1.5/DSR1/TRACEDATA1, 70 P2.3/PWM1.4/DCD1/TRACEDATA2, 71 VDDIO_3, 72 VSS_4, 73 P2.2/PWM1.3/CTS1/TRACEDATA3, 74 P2.1/PWM1.2/RXD1, 75 P2.0/PWM1.1/TXD1, 76 P0.9/I2STX_SDA/MOSI1/MAT2.3, 77 P0.8/I2STX_WS/MISO1/MAT2.2, 78 P0.7/I2STX_CLK/SCK1/MAT2.1, 79 P0.6/I2SRX_SDA/SSEL1/MAT2.0, 80 P0.5/I2SRX_WS/TD2/CAP2.1, 81 P0.4/I2SRX_CLK/RD2/CAP2.0, 82 P4.28/RX_MCLK/MAT2.0/TXD3, 83 VSS_6, 84 VDDREG_2, 85 P4.29/TX_MCLK/MAT2.1/RXD3, 86 P1.17/ENET_MDIO, 87 P1.16/ENET_MDC, 88 P1.15/ENET_REF_CLK, 89 P1.14/ENET_RX_ER, 90 P1.10/ENET_RXD1, 91 P1.9/ENET_RXD0, 92 P1.8/ENET_CRS, 93 P1.4/ENET_TX_EN, 94 P1.1/ENET_TXD1, 95 P1.0/ENET_TXD0, 96 VDDIO_4, 97 VSS_5, 98 P0.2/TXD0/AD0.7, 99 P0.3/RXD0/AD0.6, 100 RTCK

## LQM2HPN1R0MJ0L
designator L?
功率电感,1uH@1MHz，20%，1500mA，1008; 料号: 10301-00105-00; 品名: 功率电感
footprint 1008L
pins: 1, 2

## LSF0204PWR
designator U?
IC，LSF0204PWR，TSSOP14; 料号: 10606-00014-9G; 品名: 接口芯片
footprint TSSOP14
pins: 1 Vref_A, 2 A1, 3 A2, 4 A3, 5 A4, 6 NC, 7 GND, 8 EN, 9 NC, 10 B4, 11 B3, 12 B2, 13 B1, 14 Vref_B

## LT3470ETS8
designator U?
LT3470ETS8,TS8; 料号: 10604-00039-00; 品名: 电源芯片
footprint TSOT-23
pins: 1 SHDN, 2 NC, 3 VIN, 4 GND, 5 SW, 6 BOOST, 7 BIAS, 8 FB

## LTC660
designator U?
IC,LTC660，SOP8; 料号: 10604-00037-00; 品名: 电源芯片
footprint SOP8 (body:6mm)
pins: 1 BOSST, 2 CAP+, 3 GND, 4 CAP-, 5 OUT, 6 LV, 7 OSC, 8 VCC

## LTC4054ESS-4.2
designator U?
IC，LTC4054ESS-4.2，SOT23-5; 料号: 10604-00030-00; 品名: 电源芯片
footprint SOT23-5
pins: 1 CHRG, 2 GND, 3 BAT, 4 VCC, 5 PROG

## LY2508A25M
designator U?, comment LY2509A25M
IC，LY2509A25M，SOT23-5; 料号: 10604-00016-00; 品名: 电源芯片
footprint SOT23-5
pins: 1 Vin, 2 Vss, 3 CE, 4 NC, 5 Vout

## MAX485EESA
designator U?
IC，MAX485EESA，SOP8; 料号: 10606-00008-4H; 品名: 接近芯片
footprint SOP8 (body:6mm)
pins: 1 RO, 2 RE, 3 DE, 4 DI, 5 GND, 6 A, 7 B, 8 VCC

## MAX3232ESE
designator U?
IC，MAX3232ESE，SOP16; 料号: 10606-00007-4H; 品名: 接近芯片
footprint SOP16 (引脚中心距50mil)
pins: 1 C1+, 2 Vs+, 3 C1-, 4 C2+, 5 C2-, 6 Vs-, 7 T2O, 8 R2I, 9 R2O, 10 T2I, 11 T1I, 12 R1O, 13 R1I, 14 T1O, 15 GND, 16 VCC

## MAX4063EUD+
designator U?
IC,MAX4063EUD+,TSSOP-14; 料号: 10604-00040-00; 品名: 电源芯片
footprint TSSOP14
pins: 1 G2, 2 INT/AUX, 3 SHDN, 4 OUT, 5 BIAS, 6 VCC, 7 ADJ, 8 OUT, 9 IN+, 10 IN-, 11 GND, 12 AUX_IN, 13 N.C, 14 G1

## MAX4173HEUT-T
designator U?
IC，MAX4173HEUT-T，SOT23-6; 料号: 10604-00033-4H; 品名: 电源芯片
footprint SOT23-6
pins: 1 GND, 2 GND, 3 VCC, 4 RS+, 5 RS-, 6 OUT

## MAX4173TEUT
designator U?
IC，MAX4173TEUT,SOT23-6; 料号: 10604-00046-00; 品名: 电源芯片
footprint SOT23-6
pins: 1 GND, 2 GND, 3 VCC, 4 RS+, 5 RS-, 6 OUT

## MAX4373HEUA
designator U?
IC，MAX4373HEUA，MSOP8; 料号: 10604-00032-4H; 品名: 电源芯片
footprint MSOP8
pins: 1 Vcc, 2 OUT, 3 CIN, 4 GND, 5 ~{RESET}, 6 COUT, 7 RS-, 8 RS+

## MAX4373TESA
designator U?
IC，MAX4373TESA，SSOP8; 料号: 10604-00031-4H; 品名: 电源芯片
footprint SSOP8
pins: 1 VCC, 2 OUT, 3 CIN1, 4 GND, 5 RESET, 6 COUT1, 7 RS-, 8 RS+

## MAX5434LEZT
designator U?
IC，MAX5434LEZT，SOT23-6; 料号: 10611-00007-4H; 品名: ASIC
footprint SOT23-6
pins: 1 VDD, 2 GND, 3 SCL, 4 SDA, 5 W, 6 L

## MAX6225A
designator U?
IC，MAX6225A，SO8; 料号: 10604-00051-00; 品名: 电源芯片
footprint SOP8 (body:6mm)
pins: 1 I.C., 2 IN, 3 NR, 4 GND, 5 TRIM, 6 OUT, 7 I.C., 8 I.C.

## MAX6250ACSA
designator U?
IC，MAX6250ACSA，SO-8; 料号: 10604-00053-00; 品名: 电源芯片
footprint SOP8 (body:6mm)
pins: 1 I.C., 2 IN, 3 NR, 4 GND, 5 TRIM, 6 OUT, 7 I.C., 8 I.C.

## MAX9814ETD+T
designator U?
IC,MAX9814ETD+T,SSOP16; 料号: 10611-00014-00; 品名: ASIC
footprint SSOP16
pins: 1 CT, 2 ~{SHDN}, 3 CG, 4 NC, 5 VDD, 6 MOUT, 7 GND, 8 MICIN, 9 A/R, 10 GAIN, 11 NC, 12 BIAS, 13 MBIAS, 14 TH

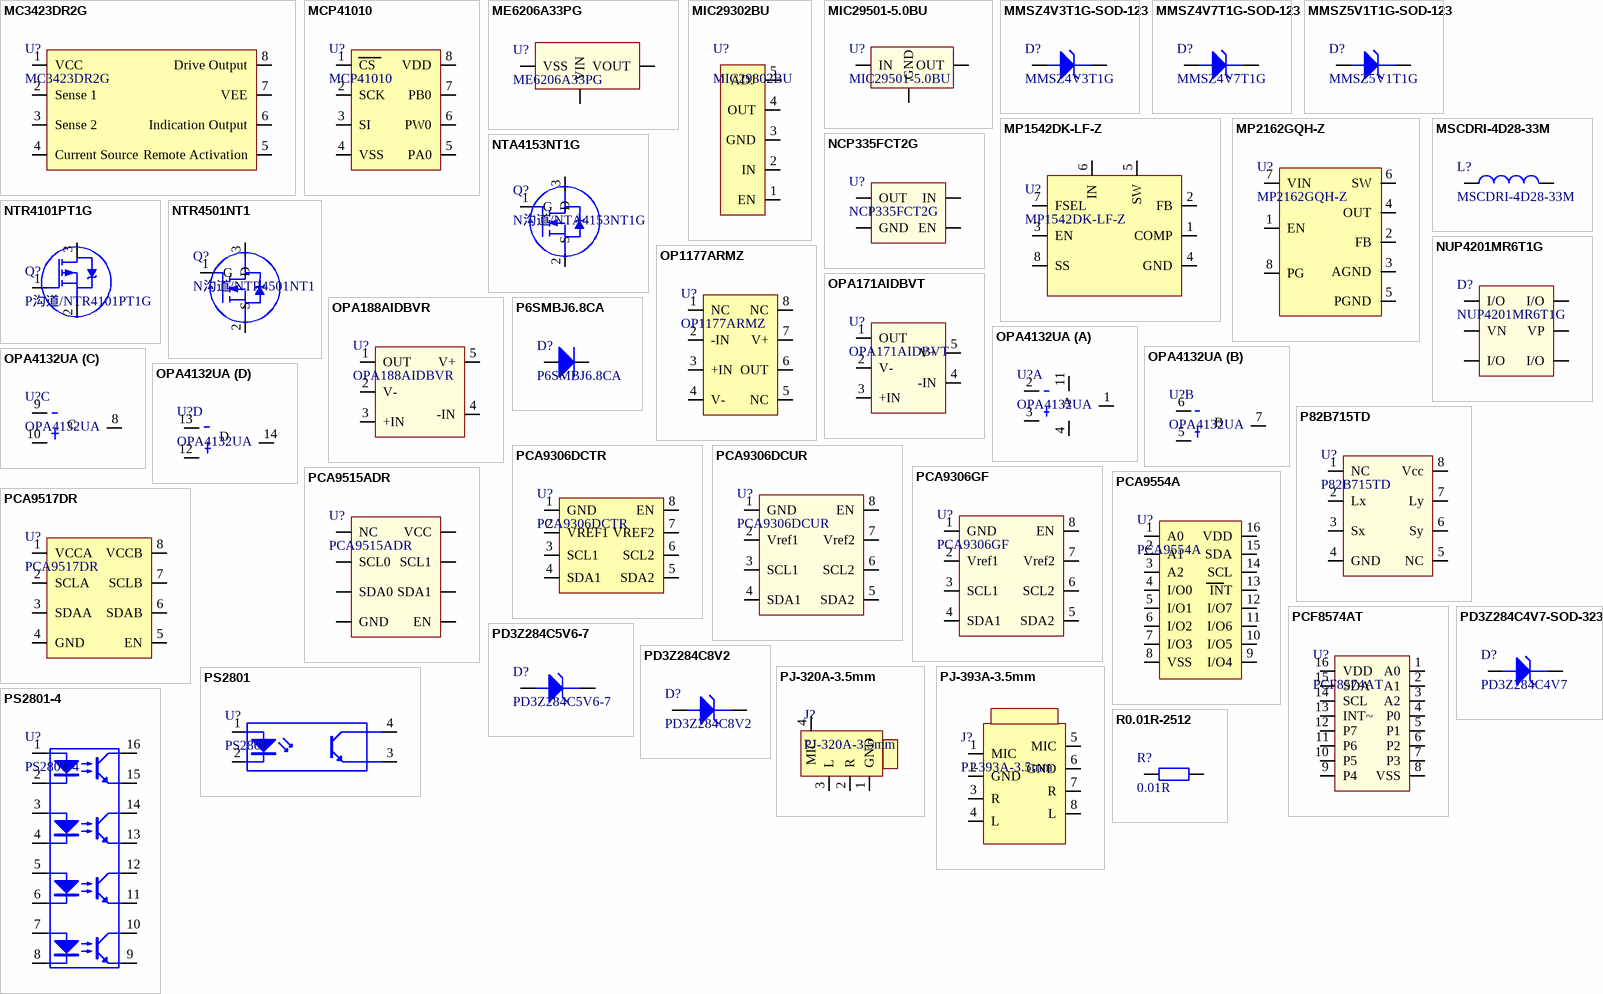
[diagram p11: symbols MC3423DR2G to R0.01R-2512]

## MC3423DR2G
designator U?
IC，MC3423DR2G，SOP8; 料号: 10604-00028-1H; 品名: 电源芯片
footprint SOP8 (body:6mm)
pins: 1 VCC, 2 Sense 1, 3 Sense 2, 4 Current Source, 5 Remote Activation, 6 Indication Output, 7 VEE, 8 Drive Output

## MCP41010
designator U?
IC，MCP41010，SOP8; 料号: 10611-00010-1J; 品名: ASIC
footprint SOP8 (body:6mm)
pins: 1 CS, 2 SCK, 3 SI, 4 VSS, 5 PA0, 6 PW0, 7 PB0, 8 VDD

## ME6206A33PG
designator U?
IC，ME6206A33PG,SOT-89; 料号: 10604-00045-00; 品名: 电源芯片
footprint SOT89 (SOT-89; Body 4.6 x 4.25 mm, inc. leads (LxW max))
pins: 1 VSS, 2 VIN, 3 VOUT

## MIC29302BU
designator U?
IC，MIC29302BU，TO-263-5; 料号: 10604-00027-00; 品名: 电源芯片
footprint TO-263-5
pins: 1 EN, 2 IN, 3 GND, 4 OUT, 5 ADJ

## MIC29501-5.0BU
designator U?
IC，MIC29501-5.0BU,TO-263; 料号: 10604-00052-00; 品名: 电源芯片
footprint TO-263-3
pins: 1 IN, 2 GND, 3 OUT

## MMSZ4V3T1G-SOD-123
designator D?, comment MMSZ4V3T1G
稳压二极管，MMSZ4V3T1G，SOD-123; 料号: 10403-00002-1H; 品名: 稳压二极管
footprint SOD-123
pins: A, K

## MMSZ4V7T1G-SOD-123
designator D?, comment MMSZ4V7T1G
稳压二极管，MMSZ4V7T1G，SOD-123; 料号: 10403-00003-1H; 品名: 稳压二极管
footprint SOD-123
pins: A, K

## MMSZ5V1T1G-SOD-123
designator D?, comment MMSZ5V1T1G
稳压二极管，MMSZ5V1T1G，SOD-123; 料号: 10403-00001-1H; 品名: 稳压二极管
footprint SOD-123
pins: A, K

## MP1542DK-LF-Z
designator U?
IC，MP1542DK-LF-Z，MSOP8; 料号: 10604-00008-2H; 品名: 电源芯片
footprint MSOP8
pins: 1 COMP, 2 FB, 3 EN, 4 GND, 5 SW, 6 IN, 7 FSEL, 8 SS

## MP2162GQH-Z
designator U?
IC，MP2162GQH-Z，QFN8; 料号: 10604-00007-2H; 品名: 电源芯片
footprint QFN8
pins: 1 EN, 2 FB, 3 AGND, 4 OUT, 5 PGND, 6 SW, 7 VIN, 8 PG

## MSCDRI-4D28-33M
designator L?
功率电感，MSCDRI-4D28-33M,33uH; 料号: 10301-3305A-00; 品名: 功率电感
pins: 1, 2

## NCP335FCT2G
designator U?
NCP335FCT2G,WLCSP0.96*0.96; 料号: 10604-00044-00; 品名: 电源芯片
pins: 1 OUT, 2 GND, 3 EN, 4 IN

## NTA4153NT1G
designator Q?, comment N沟道/NTA4153NT1G
N沟道场效应管，NTA4153NT1G，SOT-416; 料号: 10503-00001-1H; 品名: N沟道场效应管
footprint SOT-416
pins: 1 G, 2 S, 3 D

## NTR4101PT1G
designator Q?, comment P沟道/NTR4101PT1G
P沟道场效应管，NTR4101PT1G，SOT-23; 料号: 10504-00002-1H; 品名: P沟道场效应管
footprint SOT-23
pins: 1 G, 2 S, 3 D

## NTR4501NT1
designator Q?, comment N沟道/NTR4501NT1
N沟道场效应管，NTR4501NT1，SOT-23; 料号: 10503-00002-1H; 品名: N沟道场效应管
footprint SOT-23
pins: 1 G, 2 S, 3 D

## NUP4201MR6T1G
designator D?
TVS管，NUP4201MR6T1G,SOT23-6; 料号: 10405-00010-00; 品名: TVS管
footprint SOT23-6
pins: 1 I/O, 2 VN, 3 I/O, 4 I/O, 5 VP, 6 I/O

## OP1177ARMZ
designator U?
IC，OP1177ARMZ，MSOP8; 料号: 10602-00004-6H; 品名: 放大器
footprint MSOP8
pins: 1 NC, 2 -IN, 3 +IN, 4 V-, 5 NC, 6 OUT, 7 V+, 8 NC

## OPA171AIDBVT
designator U?
IC，OPA171AIDBVT ，SOT23-5; 料号: 10602-00009-9G; 品名: 放大器
footprint SOT23-5
pins: 1 OUT, 2 V-, 3 +IN, 4 -IN, 5 V+

## OPA188AIDBVR
designator U?
IC，OPA188AIDBVR，SOT-23; 料号: 10602-00019-9G; 品名: 放大器
footprint SOT23-5
pins: 1 OUT, 2 V-, 3 +IN, 4 -IN, 5 V+

## OPA4132UA
designator U?
IC，OPA4132UA,SOP14; 料号: 10602-00011-9G; 品名: 放大器
footprint SOP14
part A pins: 1 Output1, 2 Input1-, 3 Input1+, 4 VCC, 11 GND
part B pins: 5 Input2+, 6 Input2-, 7 Output2
part C pins: 8 Output3, 9 Input3-, 10 Input3+
part D pins: 12 Input4+, 13 Input4-, 14 Output4
part A text: A
part B text: B
part C text: C
part D text: D

## P6SMBJ6.8CA
designator D?
TVS管，P6SMBJ6.8CA，DO-214AA; 料号: 10405-00004-6J; 品名: TVS管
footprint DO-214AA(SMB) (稳压管)
pins: 1 A, 2 K

## P82B715TD
designator U?
IC，P82B715TD，SOP8; 料号: 10611-00002-9H; 品名: ASIC
footprint SOP8 (body:6mm)
pins: 1 NC, 2 Lx, 3 Sx, 4 GND, 5 NC, 6 Sy, 7 Ly, 8 Vcc

## PCA9306DCTR
designator U?
IC,PCA9306DCTR,VSSOP8; 料号: 10606-00012-00; 品名: 接口芯片
footprint SSOP8
pins: 1 GND, 2 VREF1, 3 SCL1, 4 SDA1, 5 SDA2, 6 SCL2, 7 VREF2, 8 EN

## PCA9306DCUR
designator U?
IC，PCA9306DCUR，SOP8; 料号: 10606-00005-9G; 品名: 接口芯片
footprint SOP8 (body:6mm)
pins: 1 GND, 2 Vref1, 3 SCL1, 4 SDA1, 5 SDA2, 6 SCL2, 7 Vref2, 8 EN

## PCA9306GF
designator U?
IC,PCA9306GF,XS0N8; 料号: 10606-00013-00; 品名: 接口芯片
pins: 1 GND, 2 Vref1, 3 SCL1, 4 SDA1, 5 SDA2, 6 SCL2, 7 Vref2, 8 EN

## PCA9515ADR
designator U?
IC，PCA9515ADR，SOP8; 料号: 10606-00015-00; 品名: 接口芯片
footprint SOP8 (body:6mm)
pins: 1 NC, 2 SCL0, 3 SDA0, 4 GND, 5 EN, 6 SDA1, 7 SCL1, 8 VCC

## PCA9517DR
designator U?
IC，PCA9517DR，SOP8; 料号: 10606-00003-9G; 品名: 接口芯片
footprint SOP8 (body:6mm)
pins: 1 VCCA, 2 SCLA, 3 SDAA, 4 GND, 5 EN, 6 SDAB, 7 SCLB, 8 VCCB

## PCA9554A
designator U?
IC，PCA9554A,SSOP16; 料号: 10606-00011-00; 品名: 接口芯片
footprint SSOP16
pins: 1 A0, 2 A1, 3 A2, 4 I/O0, 5 I/O1, 6 I/O2, 7 I/O3, 8 VSS, 9 I/O4, 10 I/O5, 11 I/O6, 12 I/O7, 13 INT, 14 SCL, 15 SDA, 16 VDD

## PCF8574AT
designator U?
IC，PCF8574AT，SOL-16; 料号: 10606-00004-9H; 品名: 接口芯片
footprint SOL-16
pins: 1 A0, 2 A1, 3 A2, 4 P0, 5 P1, 6 P2, 7 P3, 8 VSS, 9 P4, 10 P5, 11 P6, 12 P7, 13 INT~, 14 SCL, 15 SDA, 16 VDD

## PD3Z284C4V7-SOD-323
designator D?, comment PD3Z284C4V7
稳压二极管，PD3Z284C4V7,0.5W，SOD-323; 料号: 10403-00004-4J; 品名: 稳压二极管
footprint SOD-323
pins: A, K

## PD3Z284C5V6-7
designator D?
稳压二极管，PD3Z284C5V6-7,0.5W，SOD-323; 料号: 10403-00005-4J; 品名: 稳压二极管
footprint SOD-323
pins: A, K

## PD3Z284C8V2
designator D?
稳压二极管，PD3Z284C8V2,0.5W，SOD-323; 料号: 10403-00007-00; 品名: 稳压二极管
footprint SOD-323
pins: A, K

## PJ-320A-3.5mm
designator J?
耳机插座,PJ-320A-3.5mm，4脚插件，脚长3mm; 料号: 10705-00013-00; 品名: 数据接口连接器
footprint PJ-320A-3.5MM(插件)
pins: 1 GND, 2 R, 3 L, 4 MIC

## PJ-393A-3.5mm
designator J?
耳机插座,PJ-393A-3.5mm，8脚贴片; 料号: 10705-00012-00; 品名: 数据接口连接器
footprint PJ-393A-3.5mm
pins: 1 MIC, 2 GND, 3 R, 4 L, 5 MIC, 6 GND, 7 R, 8 L

## PS2801
designator U?
光耦，PS2801，SOP4; 料号: 10609-00006-8J; 品名: 光耦
footprint SOP4
pins: 1 A, 2 K, 3 E, 4 C

## PS2801-4
designator U?
光耦，PS2801-4，SOP16; 料号: 10609-00005-8J; 品名: 光耦
footprint SOP16 (引脚中心距50mil)
pins: 1 LED Anode, 2 LED Cathode, 3 LED Anode, 4 LED Cathode, 5 LED Anode, 6 LED Cathode, 7 LED Anode, 8 LED Cathode, 9 Emitter, 10 Collector, 11 Emitter, 12 Collector, 13 Emitter, 14 Collector, 15 Emitter, 16 Collector

## R0.01R-2512
designator R?, comment 0.01R
金属膜电阻,0.01R,2512; 料号: 10101-0R015-00; 品名: 金属膜电阻
footprint 2512R
pins: 1, 2

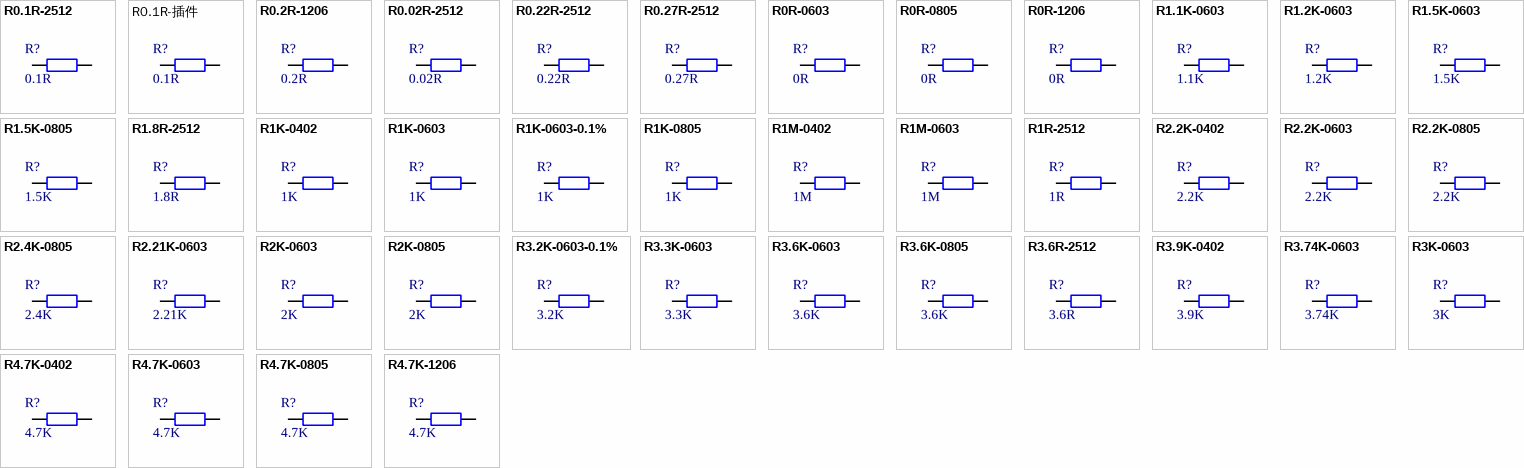
[diagram p12: symbols R0.1R-2512 to R4.7K-1206]

## R0.1R-2512
designator R?, comment 0.1R
金属膜电阻,0.1R,1%,1W,2512; 料号: 10101-0R105-00; 品名: 金属膜电阻
footprint 2512R
pins: 1, 2

## R0.1R-插件
designator R?, comment 0.1R
金属膜电阻,0.1R,0.1%,3W,直插，14.8*5.2*0.8（mm）; 料号: 10101-0R10E-00; 品名: 金属膜电阻
pins: 1, 2

## R0.2R-1206
designator R?, comment 0.2R
金属膜电阻,0.2R,1%,1/4W,1206; 料号: 10101-0R204-00; 品名: 金属膜电阻
footprint 1206R
pins: 1, 2

## R0.02R-2512
designator R?, comment 0.02R
金属膜电阻,0.02R,1%,1W,2512; 料号: 10101-0R025-00; 品名: 金属膜电阻
footprint 2512R
pins: 1, 2

## R0.22R-2512
designator R?, comment 0.22R
金属膜电阻,0.22R,1%,1W,2512; 料号: 10101-0R225-00; 品名: 金属膜电阻
footprint 2512R
pins: 1, 2

## R0.27R-2512
designator R?, comment 0.27R
金属膜电阻,0.27R,1%,2W,2512; 料号: 10101-0R275-00; 品名: 金属膜电阻
footprint 2512R
pins: 1, 2

## R0R-0603
designator R?, comment 0R
金属膜电阻,0R,5%,1/10W,0603; 料号: 10101-0R002-00; 品名: 金属膜电阻
footprint 0603R
pins: 1, 2

## R0R-0805
designator R?, comment 0R
金属膜电阻,0R,5%,1/8W,0805; 料号: 10101-0R003-00; 品名: 金属膜电阻
footprint 0805R
pins: 1, 2

## R0R-1206
designator R?, comment 0R
金属膜电阻,0R,5%,1/4W,1206; 料号: 10101-0R004-00; 品名: 金属膜电阻
footprint 1206R
pins: 1, 2

## R1.1K-0603
designator R?, comment 1.1K
金属膜电阻,1.1K,1%,0603; 料号: 10101-11012-00; 品名: 金属膜电阻
footprint 0603R
pins: 1, 2

## R1.2K-0603
designator R?, comment 1.2K
金属膜电阻,1.2K,1%,1/10W,0603; 料号: 10101-12012-00; 品名: 金属膜电阻
footprint 0603R
pins: 1, 2

## R1.5K-0603
designator R?, comment 1.5K
金属膜电阻,1.5K,1%,1/10W,0603; 料号: 10101-15012-00; 品名: 金属膜电阻
footprint 0603R
pins: 1, 2

## R1.5K-0805
designator R?, comment 1.5K
金属膜电阻,1.5K,1%,1/8W,0805; 料号: 10101-15013-00; 品名: 金属膜电阻
footprint 0805R
pins: 1, 2

## R1.8R-2512
designator R?, comment 1.8R
金属膜电阻,1.8R,2W,1%,2512; 料号: 10101-1R805-00; 品名: 金属膜电阻
footprint 2512R
pins: 1, 2

## R1K-0402
designator R?, comment 1K
金属膜电阻,1K,1%,1/16W,0402; 料号: 10101-10011-00; 品名: 金属膜电阻
footprint 0402R (Chip Capacitor; Body 1.0 x 0.5 mm (LxW typ))
pins: 1, 2

## R1K-0603
designator R?, comment 1K
金属膜电阻,1K,1%,1/10W,0603; 料号: 10101-10012-00; 品名: 金属膜电阻
footprint 0603R
pins: 1, 2

## R1K-0603-0.1%
designator R?, comment 1K
金属膜电阻,1K,0.1%,1/10W,0603; 料号: 10101-1001B-00; 品名: 金属膜电阻
footprint 0603R
pins: 1, 2

## R1K-0805
designator R?, comment 1K
金属膜电阻,1K,1%,1/8W,0805; 料号: 10101-10013-00; 品名: 金属膜电阻
footprint 0805R
pins: 1, 2

## R1M-0402
designator R?, comment 1M
金属膜电阻,1M,5%,1/16W,0402; 料号: 10101-10027-00; 品名: 金属膜电阻
footprint 0402R (Chip Capacitor; Body 1.0 x 0.5 mm (LxW typ))
pins: 1, 2

## R1M-0603
designator R?, comment 1M
金属膜电阻,1M,5%,1/10W,0603; 料号: 10101-10048-00; 品名: 金属膜电阻
footprint 0603R
pins: 1, 2

## R1R-2512
designator R?, comment 1R
金属膜电阻,1R,1%,1W,2512; 料号: 10101-00105-00; 品名: 金属膜电阻
footprint 2512R
pins: 1, 2

## R2.2K-0402
designator R?, comment 2.2K
金属膜电阻,2.2K,1%,1/16W,0402; 料号: 10101-22011-00; 品名: 金属膜电阻
footprint 0402R (Chip Capacitor; Body 1.0 x 0.5 mm (LxW typ))
pins: 1, 2

## R2.2K-0603
designator R?, comment 2.2K
金属膜电阻,2.2K,1%,1/16W,0603; 料号: 10101-22012-00; 品名: 金属膜电阻
footprint 0603R
pins: 1, 2

## R2.2K-0805
designator R?, comment 2.2K
金属膜电阻,2.2K,1%,1/8W,0805; 料号: 10101-22013-00; 品名: 金属膜电阻
footprint 0805R
pins: 1, 2

## R2.4K-0805
designator R?, comment 2.4K
金属膜电阻,2.4K,1%,1/8W,0805; 料号: 10101-24013-00; 品名: 金属膜电阻
footprint 0805R
pins: 1, 2

## R2.21K-0603
designator R?, comment 2.21K
金属膜电阻,2.21K,1%,1/10W,0603; 料号: 10101-22112-00; 品名: 金属膜电阻
footprint 0603R
pins: 1, 2

## R2K-0603
designator R?, comment 2K
金属膜电阻,2K,1%,1/10W,0603; 料号: 10101-20012-00; 品名: 金属膜电阻
footprint 0603R
pins: 1, 2

## R2K-0805
designator R?, comment 2K
金属膜电阻,2K,1%,1/8W,0805; 料号: 10101-20013-00; 品名: 金属膜电阻
footprint 0805R
pins: 1, 2

## R3.2K-0603-0.1%
designator R?, comment 3.2K
金属膜电阻,3.2KK,0.1%,1/10W,0603; 料号: 10101-03201-00; 品名: 金属膜电阻
footprint 0603R
pins: 1, 2

## R3.3K-0603
designator R?, comment 3.3K
金属膜电阻,3.3K,1%,1/10W,0603; 料号: 10101-33012-00; 品名: 金属膜电阻
footprint 0603R
pins: 1, 2

## R3.6K-0603
designator R?, comment 3.6K
金属膜电阻,3.6K,1%,1/10W,0603; 料号: 10101-36012-00; 品名: 金属膜电阻
footprint 0603R
pins: 1, 2

## R3.6K-0805
designator R?, comment 3.6K
金属膜电阻,3.6K,1%,1/8W,0805; 料号: 10101-36013-00; 品名: 金属膜电阻
footprint 0805R
pins: 1, 2

## R3.6R-2512
designator R?, comment 3.6R
金属膜电阻,3.6R,1%,2512; 料号: 10101-3R605-00; 品名: 金属膜电阻
footprint 2512R
pins: 1, 2

## R3.9K-0402
designator R?, comment 3.9K
金属膜电阻,3.9K,1%,1/16W,0402; 料号: 10101-39011-00; 品名: 金属膜电阻
footprint 0402R (Chip Capacitor; Body 1.0 x 0.5 mm (LxW typ))
pins: 1, 2

## R3.74K-0603
designator R?, comment 3.74K
金属膜电阻,3.74K,1%,0603; 料号: 10101-37412-00; 品名: 金属膜电阻
footprint 0603R
pins: 1, 2

## R3K-0603
designator R?, comment 3K
金属膜电阻,3K,1%,1/10W,0603; 料号: 10101-30012-00; 品名: 金属膜电阻
footprint 0603R
pins: 1, 2

## R4.7K-0402
designator R?, comment 4.7K
金属膜电阻,4.7K,1%,1/16W,0402; 料号: 10101-47011-00; 品名: 金属膜电阻
footprint 0402R (Chip Capacitor; Body 1.0 x 0.5 mm (LxW typ))
pins: 1, 2

## R4.7K-0603
designator R?, comment 4.7K
金属膜电阻,4.7K,1%,1/10W,0603; 料号: 10101-47012-00; 品名: 金属膜电阻
footprint 0603R
pins: 1, 2

## R4.7K-0805
designator R?, comment 4.7K
金属膜电阻,4.7K,1%,1/8W,0805; 料号: 10101-47013-00; 品名: 金属膜电阻
footprint 0805R
pins: 1, 2

## R4.7K-1206
designator R?, comment 4.7K
金属膜电阻,4.7K,1%,1/4W,1206; 料号: 10101-47014-00; 品名: 金属膜电阻
footprint 1206R
pins: 1, 2

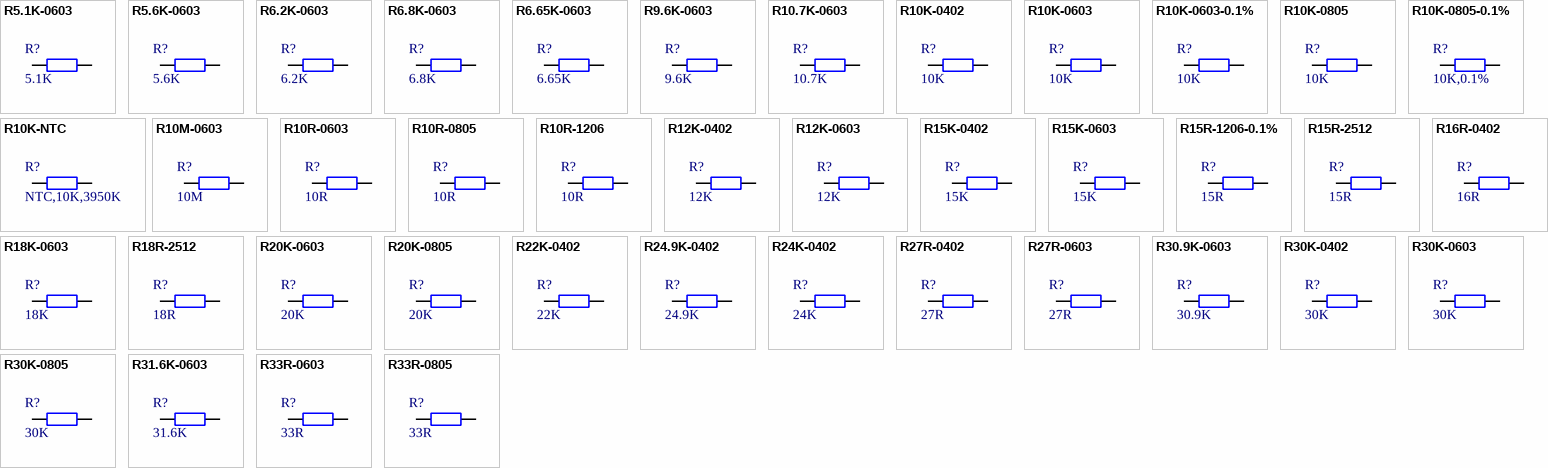
[diagram p13: symbols R5.1K-0603 to R33R-0805]

## R5.1K-0603
designator R?, comment 5.1K
金属膜电阻,5.1K,1%,1/10W,0603; 料号: 10101-51012-00; 品名: 金属膜电阻
footprint 0603R
pins: 1, 2

## R5.6K-0603
designator R?, comment 5.6K
金属膜电阻,5.6K,1%,1/10W,0603; 料号: 10101-56012-00; 品名: 金属膜电阻
footprint 0603R
pins: 1, 2

## R6.2K-0603
designator R?, comment 6.2K
金属膜电阻,6.2K,1%,0603; 料号: 10101-62012-00; 品名: 金属膜电阻
footprint 0603R
pins: 1, 2

## R6.8K-0603
designator R?, comment 6.8K
金属膜电阻,6.8K,1%,1/10W,0603; 料号: 10101-68012-00; 品名: 金属膜电阻
footprint 0603R
pins: 1, 2

## R6.65K-0603
designator R?, comment 6.65K
金属膜电阻,6.65K,1%,0603; 料号: 10101-66512-00; 品名: 金属膜电阻
footprint 0603R
pins: 1, 2

## R9.6K-0603
designator R?, comment 9.6K
金属膜电阻,9.6K,1%,1/10W,0603; 料号: 10101-96012-00; 品名: 金属膜电阻
footprint 0603R
pins: 1, 2

## R10.7K-0603
designator R?, comment 10.7K
金属膜电阻,10.7K,1%,1/8W,0603; 料号: 10101-10722-00; 品名: 金属膜电阻
footprint 0603R
pins: 1, 2

## R10K-0402
designator R?, comment 10K
金属膜电阻,10K,1%,1/16W,0402; 料号: 10101-10021-00; 品名: 金属膜电阻
footprint 0402R (Chip Capacitor; Body 1.0 x 0.5 mm (LxW typ))
pins: 1, 2

## R10K-0603
designator R?, comment 10K
金属膜电阻,10K,1%,1/10W,0603; 料号: 10101-10022-00; 品名: 金属膜电阻
footprint 0603R
pins: 1, 2

## R10K-0603-0.1%
designator R?, comment 10K
金属膜电阻,10K,0.1%,1/10W,0603; 料号: 10101-1002B-00; 品名: 金属膜电阻
footprint 0603R
pins: 1, 2

## R10K-0805
designator R?, comment 10K
金属膜电阻,10K,1%,1/8W,0805; 料号: 10101-10023-00; 品名: 金属膜电阻
footprint 0805R
pins: 1, 2

## R10K-0805-0.1%
designator R?, comment 10K,0.1%
金属膜电阻,10K,0.1%,1/8W,0805; 料号: 10101-1002C-6J; 品名: 金属膜电阻
footprint 0805R
pins: 1, 2

## R10K-NTC
designator R?, comment NTC,10K,3950K
NTC,10K,B值：3950K,5%,0805; 料号: 10104-10029-00; 品名: NTC
footprint 0805R
pins: 1, 2

## R10M-0603
designator R?, comment 10M
金属膜电阻,10M,5%,1/10W,0603; 料号: 10101-10058-00; 品名: 金属膜电阻
footprint 0603R
pins: 1, 2

## R10R-0603
designator R?, comment 10R
金属膜电阻,10R,1%,1/10W,0603; 料号: 10101-01002-00; 品名: 金属膜电阻
footprint 0603R
pins: 1, 2

## R10R-0805
designator R?, comment 10R
金属膜电阻,10R,1%,1/8W,0805; 料号: 10101-01003-00; 品名: 金属膜电阻
footprint 0805R
pins: 1, 2

## R10R-1206
designator R?, comment 10R
金属膜电阻,10R,1%,1/4W,1206; 料号: 10101-01004-00; 品名: 金属膜电阻
footprint 1206R
pins: 1, 2

## R12K-0402
designator R?, comment 12K
金属膜电阻,12K,1%,1/16W,0402; 料号: 10101-12021-00; 品名: 金属膜电阻
footprint 0402R (Chip Capacitor; Body 1.0 x 0.5 mm (LxW typ))
pins: 1, 2

## R12K-0603
designator R?, comment 12K
金属膜电阻,12K,1%,1/10W,0603; 料号: 10101-12022-00; 品名: 金属膜电阻
footprint 0603R
pins: 1, 2

## R15K-0402
designator R?, comment 15K
金属膜电阻,15K,1%,1/16W,0402; 料号: 10101-15021-00; 品名: 金属膜电阻
footprint 0402R (Chip Capacitor; Body 1.0 x 0.5 mm (LxW typ))
pins: 1, 2

## R15K-0603
designator R?, comment 15K
金属膜电阻,15K,1%,1/10W,0603; 料号: 10101-15022-00; 品名: 金属膜电阻
footprint 0603R
pins: 1, 2

## R15R-1206-0.1%
designator R?, comment 15R
金属膜电阻,15R,0.1%,1/4W,1206; 料号: 10101-01504-00; 品名: 金属膜电阻
footprint 1206R
pins: 1, 2

## R15R-2512
designator R?, comment 15R
金属膜电阻,15R,1%,1W,2512; 料号: 10101-01505-00; 品名: 金属膜电阻
footprint 2512R
pins: 1, 2

## R16R-0402
designator R?, comment 16R
金属膜电阻,16R,1%,1/16W,0402; 料号: 10101-01601-00; 品名: 金属膜电阻
footprint 0402R (Chip Capacitor; Body 1.0 x 0.5 mm (LxW typ))
pins: 1, 2

## R18K-0603
designator R?, comment 18K
金属膜电阻,18K,1%,1/10W,0603; 料号: 10101-18022-00; 品名: 金属膜电阻
footprint 0603R
pins: 1, 2

## R18R-2512
designator R?, comment 18R
金属膜电阻,18R,0.1%,2W,2512; 料号: 10101-0180D-00; 品名: 金属膜电阻
footprint 2512R
pins: 1, 2

## R20K-0603
designator R?, comment 20K
金属膜电阻,20K,1%,1/10W,0603; 料号: 10101-20022-00; 品名: 金属膜电阻
footprint 0603R
pins: 1, 2

## R20K-0805
designator R?, comment 20K
金属膜电阻,20K,1%,1/8W,0805; 料号: 10101-20023-00; 品名: 金属膜电阻
footprint 0805R
pins: 1, 2

## R22K-0402
designator R?, comment 22K
金属膜电阻,22K,1%,1/16W,0402; 料号: 10101-22021-00; 品名: 金属膜电阻
footprint 0402R (Chip Capacitor; Body 1.0 x 0.5 mm (LxW typ))
pins: 1, 2

## R24.9K-0402
designator R?, comment 24.9K
金属膜电阻,24.9K,1%,1/16W,0402; 料号: 10101-24921-00; 品名: 金属膜电阻
footprint 0402R (Chip Capacitor; Body 1.0 x 0.5 mm (LxW typ))
pins: 1, 2

## R24K-0402
designator R?, comment 24K
金属膜电阻,24K,1%,1/16W,0402; 料号: 10101-24021-00; 品名: 金属膜电阻
footprint 0402R (Chip Capacitor; Body 1.0 x 0.5 mm (LxW typ))
pins: 1, 2

## R27R-0402
designator R?, comment 27R
金属膜电阻,27R,1%,1/16W,0402; 料号: 10101-02701-00; 品名: 金属膜电阻
footprint 0402R (Chip Capacitor; Body 1.0 x 0.5 mm (LxW typ))
pins: 1, 2

## R27R-0603
designator R?, comment 27R
金属膜电阻,27R,1%,1/10W,0603; 料号: 10101-02702-00; 品名: 金属膜电阻
footprint 0603R
pins: 1, 2

## R30.9K-0603
designator R?, comment 30.9K
金属膜电阻,30.9K,1%,1/10W,0603; 料号: 10101-30922-00; 品名: 金属膜电阻
footprint 0603R
pins: 1, 2

## R30K-0402
designator R?, comment 30K
金属膜电阻,30K,1%,1/16W,0402; 料号: 10101-30021-00; 品名: 金属膜电阻
footprint 0402R (Chip Capacitor; Body 1.0 x 0.5 mm (LxW typ))
pins: 1, 2

## R30K-0603
designator R?, comment 30K
金属膜电阻,30K,1%,1/10W,0603; 料号: 10101-30022-00; 品名: 金属膜电阻
footprint 0603R
pins: 1, 2

## R30K-0805
designator R?, comment 30K
金属膜电阻,30K,1%,1/8W,0805; 料号: 10101-30023-00; 品名: 金属膜电阻
footprint 0805R
pins: 1, 2

## R31.6K-0603
designator R?, comment 31.6K
金属膜电阻,31.6K,1%,1/10W,0603; 料号: 10101-31622-00; 品名: 金属膜电阻
footprint 0603R
pins: 1, 2

## R33R-0603
designator R?, comment 33R
金属膜电阻,33R,1%,1/10W,0603; 料号: 10101-03302-00; 品名: 金属膜电阻
footprint 0603R
pins: 1, 2

## R33R-0805
designator R?, comment 33R
金属膜电阻,33R,1%,1/8W,0805; 料号: 10101-03303-00; 品名: 金属膜电阻
footprint 0805R
pins: 1, 2

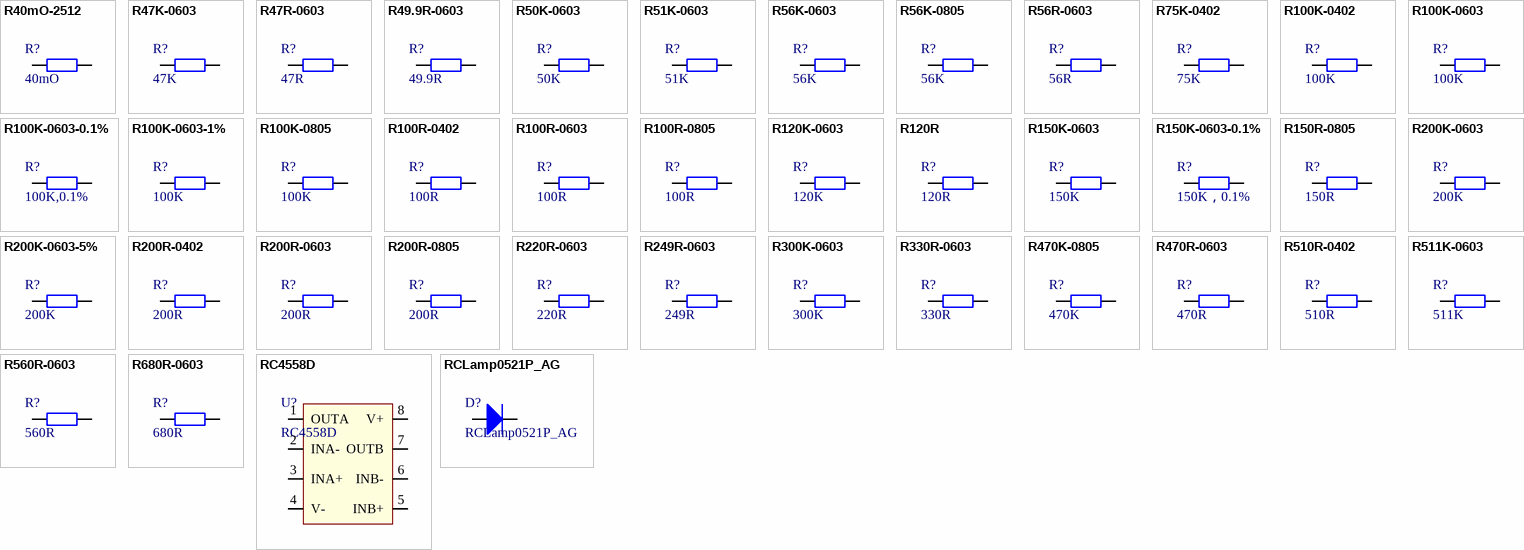
[diagram p14: symbols R40mO-2512 to RCLamp0521P_AG]

## R40mO-2512
designator R?, comment 40mO
金属膜电阻,40mO,2512; 料号: 10101-04005-00; 品名: 金属膜电阻
footprint 2512R
pins: 1, 2

## R47K-0603
designator R?, comment 47K
金属膜电阻,47K,1%,1/10W,0603; 料号: 10101-47022-00; 品名: 金属膜电阻
footprint 0603R
pins: 1, 2

## R47R-0603
designator R?, comment 47R
金属膜电阻,47R,1%,1/10W,0603; 料号: 10101-04702-00; 品名: 金属膜电阻
footprint 0603R
pins: 1, 2

## R49.9R-0603
designator R?, comment 49.9R
金属膜电阻,49.9R,1%,1/10W,0603; 料号: 10101-49R92-00; 品名: 金属膜电阻
footprint 0603R
pins: 1, 2

## R50K-0603
designator R?, comment 50K
金属膜电阻,50K,1%,1/10W,0603; 料号: 10101-50022-00; 品名: 金属膜电阻
footprint 0603R
pins: 1, 2

## R51K-0603
designator R?, comment 51K
金属膜电阻,51K,1%,0603; 料号: 10101-51022-00; 品名: 金属膜电阻
footprint 0603R
pins: 1, 2

## R56K-0603
designator R?, comment 56K
金属膜电阻,56K,1%,1/10W,0603; 料号: 10101-56022-00; 品名: 金属膜电阻
footprint 0603R
pins: 1, 2

## R56K-0805
designator R?, comment 56K
金属膜电阻,56K,1%,1/8W,0805; 料号: 10101-56023-00; 品名: 金属膜电阻
footprint 0805R
pins: 1, 2

## R56R-0603
designator R?, comment 56R
金属膜电阻,56R,1%,1/10W,0603; 料号: 10101-05602-00; 品名: 金属膜电阻
footprint 0603R
pins: 1, 2

## R75K-0402
designator R?, comment 75K
金属膜电阻,75K,5%,1/16W,0402; 料号: 10101-75027-00; 品名: 金属膜电阻
footprint 0402R (Chip Capacitor; Body 1.0 x 0.5 mm (LxW typ))
pins: 1, 2

## R100K-0402
designator R?, comment 100K
金属膜电阻,100K,5%,1/16W,0402; 料号: 10101-10037-00; 品名: 金属膜电阻
footprint 0402R (Chip Capacitor; Body 1.0 x 0.5 mm (LxW typ))
pins: 1, 2

## R100K-0603
designator R?, comment 100K
金属膜电阻,100K,5%,1/10W,0603; 料号: 10101-10038-00; 品名: 金属膜电阻
footprint 0603R
pins: 1, 2

## R100K-0603-0.1%
designator R?, comment 100K,0.1%
金属膜电阻,100K,0.1%,1/10W,0603; 料号: 10101-1003B-00; 品名: 金属膜电阻
footprint 0603R
pins: 1, 2

## R100K-0603-1%
designator R?, comment 100K
金属膜电阻,100K,1%,1/10W,0603; 料号: 10101-10032-00; 品名: 金属膜电阻
footprint 0603R
pins: 1, 2

## R100K-0805
designator R?, comment 100K
金属膜电阻,100K,5%,1/8W,0805; 料号: 10101-10039-00; 品名: 金属膜电阻
footprint 0805R
pins: 1, 2

## R100R-0402
designator R?, comment 100R
金属膜电阻,100R,1%,1/16W,0402; 料号: 10101-10001-00; 品名: 金属膜电阻
footprint 0402R (Chip Capacitor; Body 1.0 x 0.5 mm (LxW typ))
pins: 1, 2

## R100R-0603
designator R?, comment 100R
金属膜电阻,100R,1%,1/10W,0603; 料号: 10101-10002-00; 品名: 金属膜电阻
footprint 0603R
pins: 1, 2

## R100R-0805
designator R?, comment 100R
金属膜电阻,100R,1%,1/8W,0805; 料号: 10101-10003-00; 品名: 金属膜电阻
footprint 0805R
pins: 1, 2

## R120K-0603
designator R?, comment 120K
金属膜电阻,120K,1%,1/10W,0603; 料号: 10101-12032-00; 品名: 金属膜电阻
footprint 0603R
pins: 1, 2

## R120R
designator R?, comment 120R
水泥电阻,120R,5W，5%， 35*9.5*9.5*0.8,引线式; 料号: 10107-12000-00; 品名: 水泥电阻
pins: 1, 2

## R150K-0603
designator R?, comment 150K
金属膜电阻,150K,1%,1/10W,0603; 料号: 10101-15032-00; 品名: 金属膜电阻
footprint 0603R
pins: 1, 2

## R150K-0603-0.1%
designator R?, comment 150K，0.1%
金属膜电阻,150K,0.1%,1/10W,0603; 料号: 10101-1503B-00; 品名: 金属膜电阻
footprint 0603R
pins: 1, 2

## R150R-0805
designator R?, comment 150R
金属膜电阻,150R,1%,1/8W,0805; 料号: 10101-15003-00; 品名: 金属膜电阻
footprint 0805R
pins: 1, 2

## R200K-0603
designator R?, comment 200K
金属膜电阻,200K,1%,1/10W,0603; 料号: 10101-20032-00; 品名: 金属膜电阻
footprint 0603R
pins: 1, 2

## R200K-0603-5%
designator R?, comment 200K
金属膜电阻,200K,5%,1/10W,0603; 料号: 10101-20038-00; 品名: 金属膜电阻
footprint 0603R
pins: 1, 2

## R200R-0402
designator R?, comment 200R
金属膜电阻,200R,1%,1/16W,0402; 料号: 10101-20001-00; 品名: 金属膜电阻
footprint 0402R (Chip Capacitor; Body 1.0 x 0.5 mm (LxW typ))
pins: 1, 2

## R200R-0603
designator R?, comment 200R
金属膜电阻,200R,1%,1/10W,0603; 料号: 10101-20002-00; 品名: 金属膜电阻
footprint 0603R
pins: 1, 2

## R200R-0805
designator R?, comment 200R
金属膜电阻,200R,1%,1/8W,0805; 料号: 10101-20003-00; 品名: 金属膜电阻
footprint 0805R
pins: 1, 2

## R220R-0603
designator R?, comment 220R
金属膜电阻,220R,1%,1/10W,0603; 料号: 10101-22002-00; 品名: 金属膜电阻
footprint 0603R
pins: 1, 2

## R249R-0603
designator R?, comment 249R
金属膜电阻,249R,1%,1/10W,0603; 料号: 10101-24902-00; 品名: 金属膜电阻
footprint 0603R
pins: 1, 2

## R300K-0603
designator R?, comment 300K
金属膜电阻,300K,1%,1/10W,0603; 料号: 10101-30032-00; 品名: 金属膜电阻
footprint 0603R
pins: 1, 2

## R330R-0603
designator R?, comment 330R
金属膜电阻,330R,1%,1/10W,0603; 料号: 10101-33002-00; 品名: 金属膜电阻
footprint 0603R
pins: 1, 2

## R470K-0805
designator R?, comment 470K
金属膜电阻,470K,1%,1/8W,0805; 料号: 10101-47033-00; 品名: 金属膜电阻
footprint 0805R
pins: 1, 2

## R470R-0603
designator R?, comment 470R
金属膜电阻,470R,1%,1/10W,0603; 料号: 10101-47002-00; 品名: 金属膜电阻
footprint 0603R
pins: 1, 2

## R510R-0402
designator R?, comment 510R
金属膜电阻,510R,1%,1/16W,0402; 料号: 10101-51001-00; 品名: 金属膜电阻
footprint 0402R (Chip Capacitor; Body 1.0 x 0.5 mm (LxW typ))
pins: 1, 2

## R511K-0603
designator R?, comment 511K
金属膜电阻,511K,5%,1/10W,0603; 料号: 10101-51138-00; 品名: 金属膜电阻
footprint 0603R
pins: 1, 2

## R560R-0603
designator R?, comment 560R
金属膜电阻,560R,1%,1/10W,0603; 料号: 10101-56002-00; 品名: 金属膜电阻
footprint 0603R
pins: 1, 2

## R680R-0603
designator R?, comment 680R
金属膜电阻,680R,1%,1/10W,0603; 料号: 10101-68002-00; 品名: 金属膜电阻
footprint 0603R
pins: 1, 2

## RC4558D
designator U?
IC，RC4558D，SOP8; 料号: 10602-00017-9G; 品名: 放大器
footprint SOP8 (body:6mm)
pins: 1 OUTA, 2 INA-, 3 INA+, 4 V-, 5 INB+, 6 INB-, 7 OUTB, 8 V+

## RCLamp0521P_AG
designator D?
TVS管，RCLamp0521P_AG，0402; 料号: 10405-00001-3J; 品名: TVS管
footprint 0402D (TVS)
pins: 1 A, 1 K

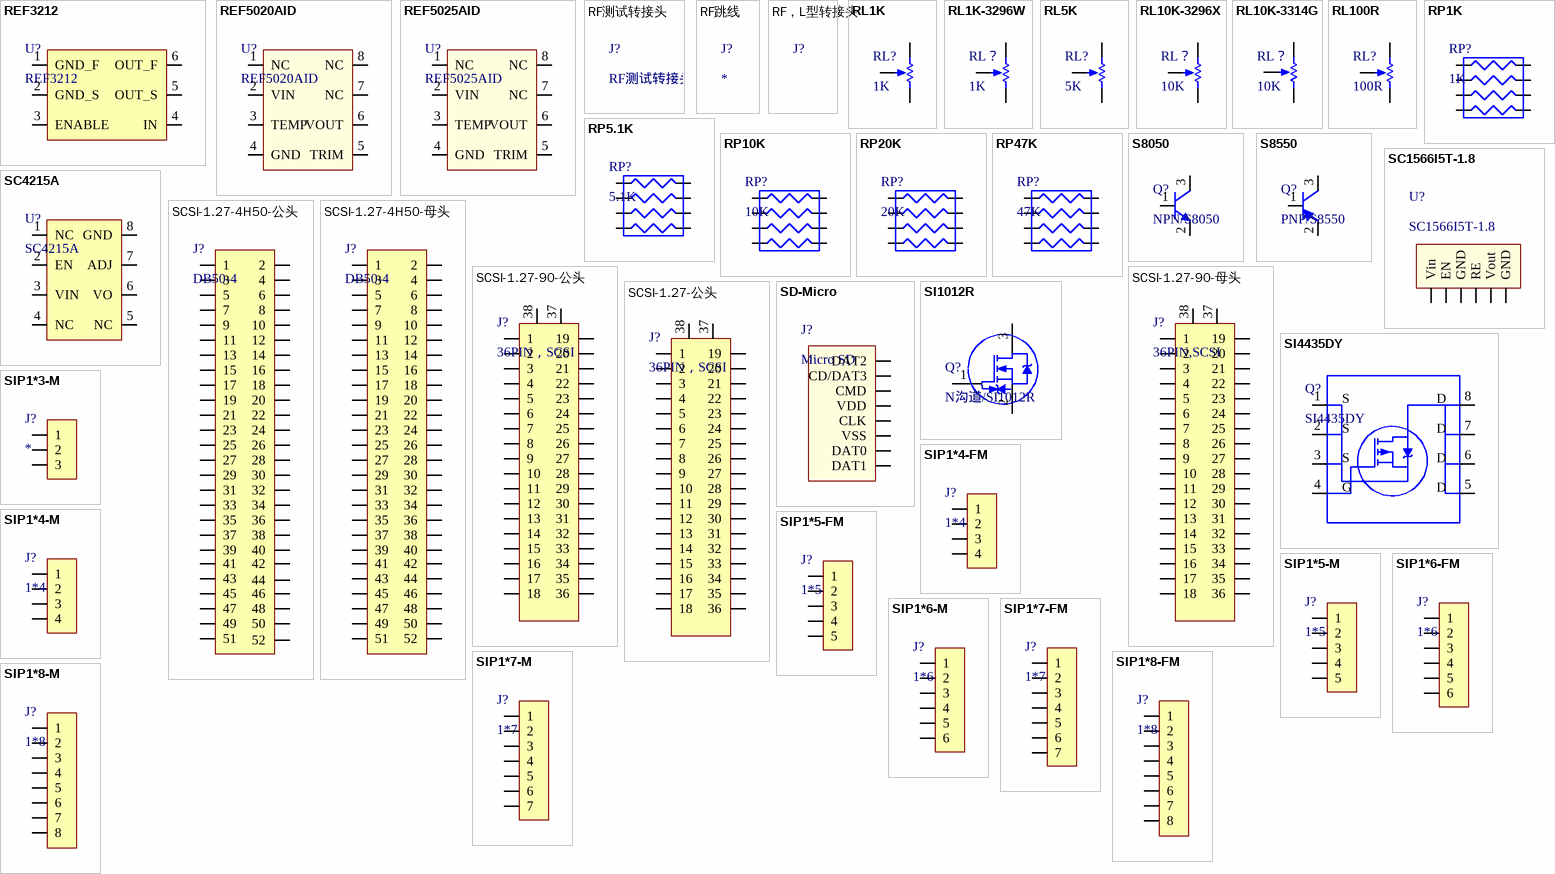
[diagram p15: symbols REF3212 to SIP1*8-M]

## REF3212
designator U?
IC,REF3212，SOT23_6M; 料号: 10604-00036-00; 品名: 电源芯片
footprint SOT23-6
pins: 1 GND_F, 2 GND_S, 3 ENABLE, 4 IN, 5 OUT_S, 6 OUT_F

## REF5020AID
designator U?
IC，REF5020AID,SOP8; 料号: 10604-00050-9G; 品名: 电源芯片
footprint SOP8 (body:6mm)
pins: 1 NC, 2 VIN, 3 TEMP, 4 GND, 5 TRIM, 6 VOUT, 7 NC, 8 NC

## REF5025AID
designator U?
IC，REF5025AID,SOP8; 料号: 10604-00049-9G; 品名: 电源芯片
footprint SOP8 (body:6mm)
pins: 1 NC, 2 VIN, 3 TEMP, 4 GND, 5 TRIM, 6 VOUT, 7 NC, 8 NC

## RF测试转接头
designator J?
RF测试转接头,N-SMA无磁转接头驻波<1.05（0-6GHZ）; 料号: 10701-00111-00; 品名: 线对板连接器

## RF跳线
designator J?
RF跳线,SMA(M)-SMA(M)for30cm RG3160DS Cable Assemlby; 料号: 10705-00018-00; 品名: 数据接口连接器

## RF，L型转接头
designator J?
RF:L型转接头,90°SMA公转母; 料号: 10701-00112-00; 品名: 线对板连接器

## RL1K
designator RL?, comment 1K
可调电阻，1K,3296X; 料号: 10106-10011-00; 品名: 可调电阻
footprint 3296X
pins: 1 TOP, 2 BOT, 3 TAP

## RL1K-3296W
designator RL？, comment 1K
可调电阻，1K,3296W; 料号: 10106-10012-00; 品名: 可调电阻
footprint 3296 (电位器)
pins: 1 TOP, 2 BOT, 3 TAP

## RL5K
designator RL?, comment 5K
可调电阻,5K,3296W; 料号: 10106-05021-00; 品名: 可调电阻
footprint 3296 (电位器)
pins: 1 TOP, 2 BOT, 3 TAP

## RL10K-3296X
designator RL？, comment 10K
可调电阻，10K,3296X; 料号: 10106-10021-00; 品名: 可调电阻
footprint 3296X
pins: 1 TOP, 2 BOT, 3 TAP

## RL10K-3314G
designator RL？, comment 10K
可调电阻，3314G-1-103E,10K,3314; 料号: 10106-10022-00; 品名: 可调电阻
footprint 3314G
pins: 1 TOP, 2 BOT, 3 TAP

## RL100R
designator RL?, comment 100R
可调电阻，100R,3296W; 料号: 10106-10001-00; 品名: 可调电阻
footprint 3296 (电位器)
pins: 1 TOP, 2 BOT, 3 TAP

## RP1K
designator RP?, comment 1K
排阻,1K,5%,1/10W,8P4R0603; 料号: 10103-10012-00; 品名: 排阻
footprint 8P4R0603
pins: 1, 2, 3, 4, 5, 6, 7, 8

## RP5.1K
designator RP?, comment 5.1K
排阻,5.1K,5%,1/10W,8P4R0603; 料号: 10103-51012-00; 品名: 排阻
footprint 8P4R0603
pins: 1, 2, 3, 4, 5, 6, 7, 8

## RP10K
designator RP?, comment 10K
排阻,10K,5%,1/10W,8P4R0603; 料号: 10103-10022-00; 品名: 排阻
footprint 8P4R0603
pins: 1, 2, 3, 4, 5, 6, 7, 8

## RP20K
designator RP?, comment 20K
排阻,20K,5%,1/10W,8P4R0603; 料号: 10103-20022-00; 品名: 排阻
footprint 8P4R0603
pins: 1, 2, 3, 4, 5, 6, 7, 8

## RP47K
designator RP?, comment 47K
排阻,47K,5%,1/10W,8P4R0603; 料号: 10103-47022-00; 品名: 排阻
footprint 8P4R0603
pins: 1, 2, 3, 4, 5, 6, 7, 8

## S8050
designator Q?, comment NPN/S8050
NPN型三极管，S8050，SOT－23; 料号: 10501-00001-00; 品名: NPN型三极管
footprint SOT-23
pins: 1 B, 2 E, 3 C

## S8550
designator Q?, comment PNP/S8550
PNP型三极管，S8550，SOT－23; 料号: 10502-00001-00; 品名: PNP型三极管
footprint SOT-23
pins: 1 B, 2 E, 3 C

## SC1566I5T-1.8
designator U?
IC,SC1566I5T-1.8,TO-263-6; 料号: 10604-00055-00; 品名: 电源芯片
footprint TO-263-5
pins: 1 Vin, 2 EN, 3 GND, 4 RE, 5 Vout, 6 GND

## SC4215A
designator U?
IC，SC4215A，SOP8; 料号: 10604-00015-3J; 品名: 电源芯片
footprint SOP8 (body:6mm)
pins: 1 NC, 2 EN, 3 VIN, 4 NC, 5 NC, 6 VO, 7 ADJ, 8 GND